# Altium integrated library Componentes Deived Projetos.IntLib: 90 symbols (part 1 of 2)
Pins are listed as number, name and electrical type; pins without a type are passive.

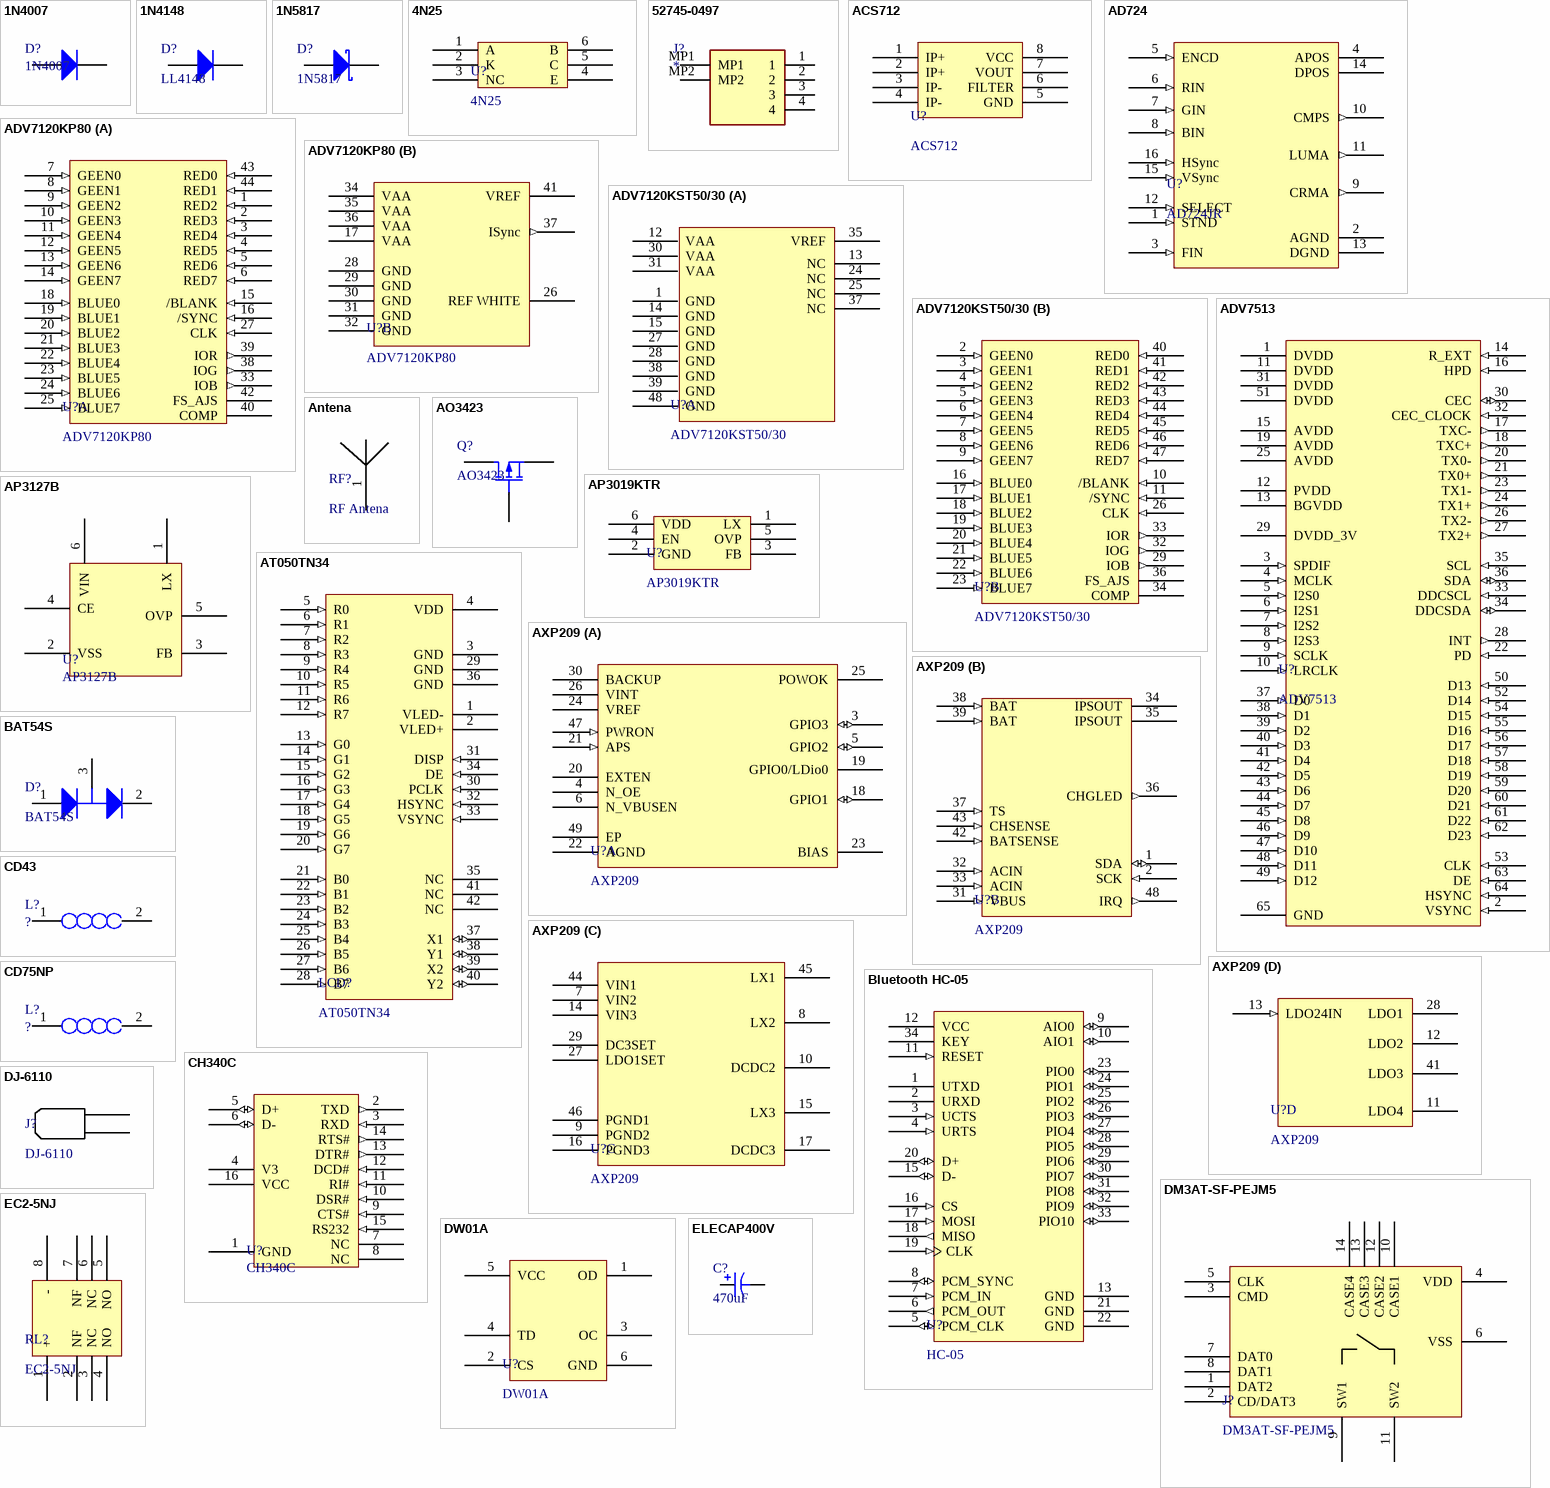
[diagram p0: symbols 1N4007 to ELECAP400V]

## 1N4007
designator D?
1A Rectifier Diodes
footprint DO41
pins: 1 A, 2 K

## 1N4148
designator D?, comment LL4148
Small Signal Fast Switching Diode
footprint MELFDIODE
pins: 1 K, 2 A

## 1N5817
designator D?
Schottky diode Barrier Rectifier
footprint DO-214 (SMA)
pins: A, K

## 4N25
designator U?
Optocoupler, Phototransistor Output, with Base Connection
footprint DIP6
pins: 1 A, 2 K, 3 NC, 4 E, 5 C, 6 B

## 52745-0497
designator J?
Connector; Manufacturer_Name: Molex; Manufacturer_Part_Number: 52745-0497; Description: Molex 52745 0.5mm Pitch 4 Way Straight FPC Connector; Allied_Number: 71469754; Datasheet Link: https://www.molex.com/pdm_docs/sd/527450497_sd.pdf; Height: 2mm; Mouser Part Number: 538-52745-0497; Mouser Price/Stock: https://www.mouser.com/Search/Refine.aspx?Keyword=538-52745-0497; RS Part Number: 7976553P; RS Price/Stock: http://uk.rs-online.com/web/p/products/7976553P; Allied Price/Stock: https://www.alliedelec.com/molexincorporated-52745-0497/71469754/
footprint 527450497
pins: 1, 2, 3, 4, MP1, MP2

## ACS712
designator U?
Sensor de Corrente 30A
footprint PDIP300-8 (DIP, Plastic; 8 Leads; Row Spacing 7.62 mm; Pitch 2.54 mm)
pins: 1 IP+, 2 IP+, 3 IP-, 4 IP-, 5 GND, 6 FILTER, 7 VOUT, 8 VCC

## AD724
designator U?, comment AD724JR
RGB para NTSC-Video
footprint SOIC16 WISE BODY
pins: 1 STND (in), 2 AGND (power), 3 FIN (in), 4 APOS (power), 5 ENCD (in), 6 RIN (in), 7 GIN (in), 8 BIN (in), 9 CRMA (out), 10 CMPS (out), 11 LUMA (out), 12 SELECT (in), 13 DGND (power), 14 DPOS (power), 15 VSync (in), 16 HSync (in)

## ADV7120KP80
designator U?
CMOS  80 MHz, Triple 8-Bit Video DAC
footprint P- 44A
part A pins: 1 RED2 (in), 2 RED3 (in), 3 RED4 (in), 4 RED5 (in), 5 RED6 (in), 6 RED7 (in), 7 GEEN0 (in), 8 GEEN1 (in), 9 GEEN2 (in), 10 GEEN3 (in), 11 GEEN4 (in), 12 GEEN5 (in), 13 GEEN6 (in), 14 GEEN7 (in), 15 /BLANK (in), 16 /SYNC (in), 18 BLUE0 (in), 19 BLUE1 (in), 20 BLUE2 (in), 21 BLUE3 (in), 22 BLUE4 (in), 23 BLUE5 (in), 24 BLUE6 (in), 25 BLUE7 (in), 27 CLK (in), 33 IOB (out), 38 IOG (out), 39 IOR (out), 40 COMP, 42 FS_AJS, 43 RED0 (in), 44 RED1 (in)
part B pins: 17 VAA, 26 REF WHITE, 28 GND, 29 GND, 30 GND, 31 GND, 32 GND, 34 VAA, 35 VAA, 36 VAA, 37 ISync (out), 41 VREF

## ADV7120KST50/30
designator U?
Triple DAC Video Convert
footprint TQFP-48 - L
part A pins: 1 GND, 12 VAA, 13 NC, 14 GND, 15 GND, 24 NC, 25 NC, 27 GND, 28 GND, 30 VAA, 31 VAA, 35 VREF, 37 NC, 38 GND, 39 GND, 48 GND
part B pins: 2 GEEN0 (in), 3 GEEN1 (in), 4 GEEN2 (in), 5 GEEN3 (in), 6 GEEN4 (in), 7 GEEN5 (in), 8 GEEN6 (in), 9 GEEN7 (in), 10 /BLANK (in), 11 /SYNC (in), 16 BLUE0 (in), 17 BLUE1 (in), 18 BLUE2 (in), 19 BLUE3 (in), 20 BLUE4 (in), 21 BLUE5 (in), 22 BLUE6 (in), 23 BLUE7 (in), 26 CLK (in), 29 IOB (out), 32 IOG (out), 33 IOR (out), 34 COMP, 36 FS_AJS, 40 RED0 (in), 41 RED1 (in), 42 RED2 (in), 43 RED3 (in), 44 RED4 (in), 45 RED5 (in), 46 RED6 (in), 47 RED7 (in)

## ADV7513
designator U?
High Perfomance HDMI Trasmitter
footprint LQFP64
pins: 1 DVDD, 2 VSYNC (in), 3 SPDIF (in), 4 MCLK (in), 5 I2S0 (in), 6 I2S1 (in), 7 I2S2 (in), 8 I2S3 (in), 9 SCLK (in), 10 LRCLK (in), 11 DVDD, 12 PVDD, 13 BGVDD, 14 R_EXT (in), 15 AVDD, 16 HPD (in), 17 TXC- (out), 18 TXC+ (out), 19 AVDD, 20 TX0- (out), 21 TX0+ (out), 22 PD (in), 23 TX1- (out), 24 TX1+ (out), 25 AVDD, 26 TX2- (out), 27 TX2+ (out), 28 INT (out), 29 DVDD_3V, 30 CEC (io), 31 DVDD, 32 CEC_CLOCK (in), 33 DDCSCL (in), 34 DDCSDA (io), 35 SCL (in), 36 SDA (io), 37 D0 (in), 38 D1 (in), 39 D2 (in), 40 D3 (in), 41 D4 (in), 42 D5 (in), 43 D6 (in), 44 D7 (in), 45 D8 (in), 46 D9 (in), 47 D10 (in), 48 D11 (in), 49 D12 (in), 50 D13 (in), 51 DVDD, 52 D14 (in), 53 CLK (in), 54 D15 (in), 55 D16 (in), 56 D17 (in), 57 D18 (in), 58 D19 (in), 59 D20 (in), 60 D21 (in), 61 D22 (in), 62 D23 (in), 63 DE (in), 64 HSYNC (in), 65 GND

## Antena
designator RF?, comment RF Antena
Antena RF
pins: 1 "Antena RF"

## AO3423
designator Q?
20V P-Channel MOSFET
footprint SOT23
pins: 1 D, 2 G, 3 S

## AP3019KTR
designator U?
WHITE LED STEP-UP CONVERTER
footprint SOT23-N
pins: 1 LX, 2 GND, 3 FB, 4 EN, 5 OVP, 6 VDD

## AP3127B
designator U?
Step-Up DC/DC Converter Series White LED Backlight Driver
footprint SOT23-N
pins: 1 LX, 2 VSS, 3 FB, 4 CE, 5 OVP, 6 VIN

## AT050TN34
designator LCD?
footprint AT050TN34
pins: 1 VLED- (power), 2 VLED+ (power), 3 GND (power), 4 VDD (power), 5 R0 (in), 6 R1 (in), 7 R2 (in), 8 R3 (in), 9 R4 (in), 10 R5 (in), 11 R6 (in), 12 R7 (in), 13 G0 (in), 14 G1 (in), 15 G2 (in), 16 G3 (in), 17 G4 (in), 18 G5 (in), 19 G6 (in), 20 G7 (in), 21 B0 (in), 22 B1 (in), 23 B2 (in), 24 B3 (in), 25 B4 (in), 26 B5 (in), 27 B6 (in), 28 B7 (in), 29 GND (power), 30 PCLK (in), 31 DISP (in), 32 HSYNC (in), 33 VSYNC (in), 34 DE (in), 35 NC, 36 GND (power), 37 X1 (io), 38 Y1 (io), 39 X2 (io), 40 Y2 (io), 41 NC, 42 NC

## AXP209
designator U?
Enhanced single Cell Li-Battery and Power System Management IC
footprint QFN-49
part A pins: 3 GPIO3 (io), 4 N_OE, 5 GPIO2 (io), 6 N_VBUSEN, 18 GPIO1 (io), 19 GPIO0/LDio0, 20 EXTEN, 21 APS (in), 22 AGND, 23 BIAS, 24 VREF, 25 POWOK, 26 VINT, 30 BACKUP, 47 PWRON (in), 49 EP (power)
part B pins: 1 SDA (io), 2 SCK (in), 31 VBUS (in), 32 ACIN (in), 33 ACIN (in), 34 IPSOUT (power), 35 IPSOUT (power), 36 CHGLED (out), 37 TS (in), 38 BAT (in), 39 BAT (in), 42 BATSENSE (in), 43 CHSENSE (in), 48 IRQ (out)
part C pins: 7 VIN2, 8 LX2, 9 PGND2 (power), 10 DCDC2, 14 VIN3, 15 LX3, 16 PGND3 (power), 17 DCDC3, 27 LDO1SET, 29 DC3SET, 44 VIN1, 45 LX1, 46 PGND1 (power)
part D pins: 11 LDO4 (power), 12 LDO2 (power), 13 LDO24IN (in), 28 LDO1 (power), 41 LDO3 (power)

## BAT54S
designator D?
Schottky diode Barrier Rectifier
footprint SOT23
pins: 1 A, 2 K, 3 K/A

## Bluetooth HC-05
designator U?, comment HC-05
Modulo Bluetooth HC-05
footprint LCC42
pins: 1 UTXD, 2 URXD, 3 UCTS (in), 4 URTS (in), 5 PCM_CLK (io), 6 PCM_OUT (out), 7 PCM_IN (in), 8 PCM_SYNC (io), 9 AIO0 (io), 10 AIO1 (io), 11 RESET (in), 12 VCC (power), 13 GND, 15 D- (io), 16 CS (in), 17 MOSI (in), 18 MISO (out), 19 CLK (in), 20 D+ (io), 21 GND, 22 GND, 23 PIO0 (io), 24 PIO1 (io), 25 PIO2 (io), 26 PIO3 (io), 27 PIO4 (io), 28 PIO5 (io), 29 PIO6 (io), 30 PIO7 (io), 31 PIO8 (io), 32 PIO9 (io), 33 PIO10 (io), 34 KEY

## CD43
designator L?, comment ?
Inductor; Manufacturer_Name: Sumida; Manufacturer_Part_Number: CD43T125NP-4R7MC; Description: Power Inductors 4.7uH +/-20% 2.2A SMD RoHS; Datasheet Link: https://products.sumida.com/products/pdf/CD43T125.pdf; Mouser Part Number: N/A; Mouser Price/Stock: https://www.mouser.com/Search/Refine.aspx?Keyword=N%2FA
footprint CD43NP
pins: 1, 2

## CD75NP
designator L?, comment ?
Inductor; Manufacturer_Name: Sumida; Manufacturer_Part_Number: CD75NP-100KC; Description: Fixed Inductors 10uH 2.3A 10% 2.52MHz SMD PWR IND; Datasheet Link: https://www.arrow.com/en/products/cd75np-100kc/sumida; Mouser Part Number: 851-CD75NP-100KC; Mouser Price/Stock: https://www.mouser.com/Search/Refine.aspx?Keyword=851-CD75NP-100KC
footprint CD75NP
pins: 1, 2

## CH340C
designator U?
footprint NSO16_M (16-Pin Small Outline Integrated Circuit 1.27 mm Pitch, IPC Low Density)
pins: 1 GND, 2 TXD (out), 3 RXD (in), 4 V3, 5 D+ (io), 6 D- (io), 7 NC, 8 NC, 9 CTS# (in), 10 DSR# (in), 11 RI# (in), 12 DCD# (in), 13 DTR# (out), 14 RTS# (out), 15 RS232 (in), 16 VCC

## DJ-6110
designator J?
Terminal Espada Macho DJ-6110 6,3x0,8
footprint DJ-6110
pins: 1, 2

## DM3AT-SF-PEJM5
designator J?
Conector micro SD push/push
footprint SD CARD MICRO
pins: 1 DAT2, 2 CD/DAT3, 3 CMD, 4 VDD, 5 CLK, 6 VSS, 7 DAT0, 8 DAT1, 9 SW1, 10 CASE1, 11 SW2, 12 CASE2, 13 CASE3, 14 CASE4

## DW01A
designator U?
One Cell Lithium-ion/Polymer Battery Protection IC
footprint SOT23-N
pins: 1 OD, 2 CS, 3 OC, 4 TD, 5 VCC, 6 GND

## EC2-5NJ
designator RL?
NEC Relé 5v EC2-5NJ
pins: 1 +, 2 NF, 3 NC, 4 NO, 5 NO, 6 NC, 7 NF, 8 -

## ELECAP400V
designator C?, comment 470uF
Capacitor Eletrolitico 400V
footprint POL_CAP400V
pins: 1, 2

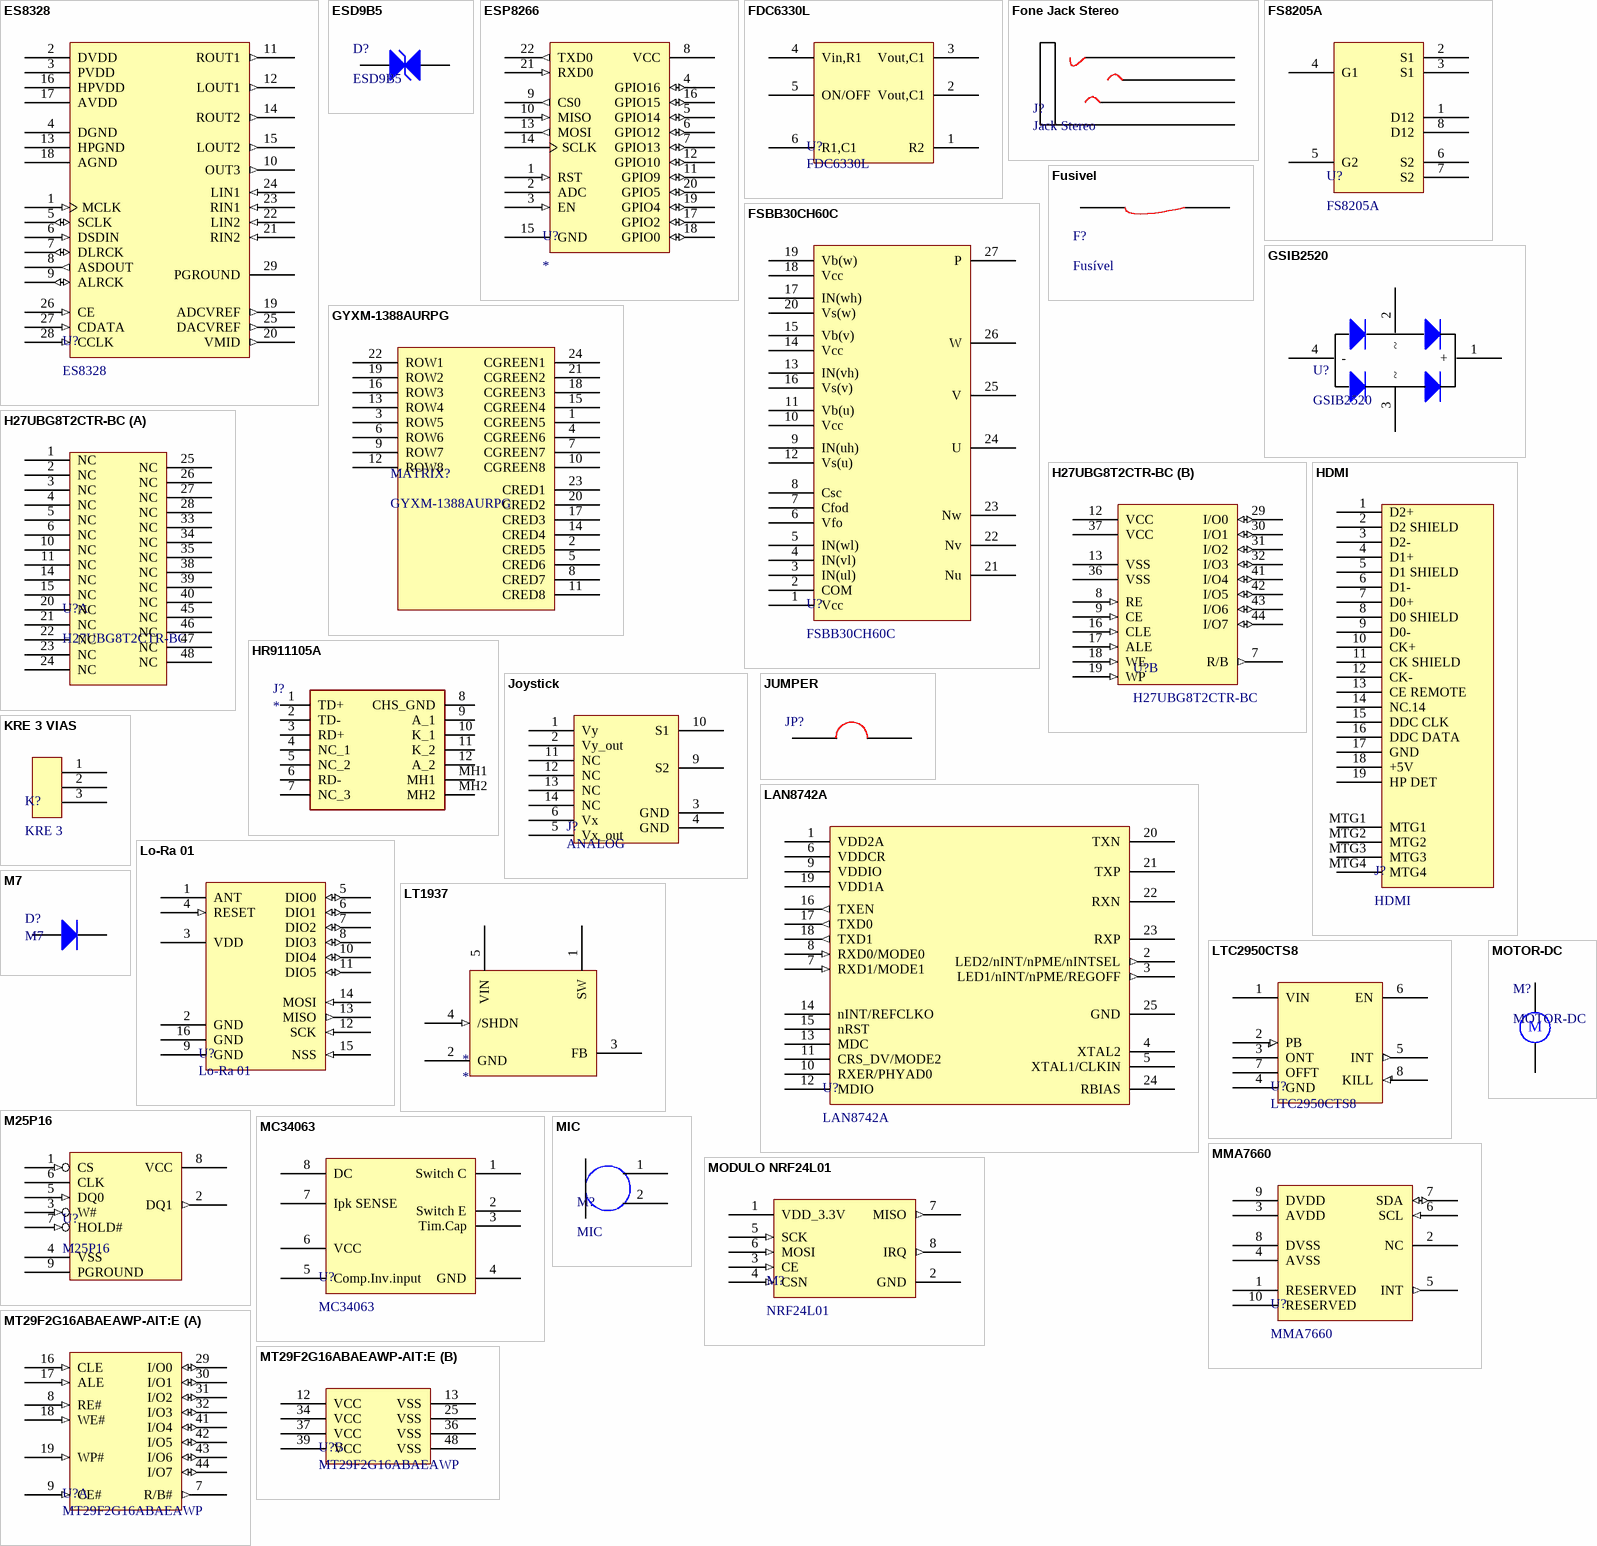
[diagram p1: symbols ES8328 to MT29F2G16ABAEAWP-AIT:E]

## ES8328
designator U?
Low Power Estereo Audio Codec With HeadPhone Amplifier
footprint QFN-28L
pins: 1 MCLK (in), 2 DVDD (power), 3 PVDD (power), 4 DGND, 5 SCLK (io), 6 DSDIN (in), 7 DLRCK (io), 8 ASDOUT (out), 9 ALRCK (io), 10 OUT3 (out), 11 ROUT1 (out), 12 LOUT1 (out), 13 HPGND, 14 ROUT2 (out), 15 LOUT2 (out), 16 HPVDD (power), 17 AVDD, 18 AGND, 19 ADCVREF (out), 20 VMID (out), 21 RIN2 (in), 22 LIN2 (in), 23 RIN1 (in), 24 LIN1 (in), 25 DACVREF (out), 26 CE (in), 27 CDATA (in), 28 CCLK (in), 29 PGROUND

## ESD9B5
designator D?
ESD PROTECTION DIODE
footprint SOD-923
pins: 1, 2

## ESP8266
designator U?
Modulo WIFI ESP8266
footprint LCC28
pins: 1 RST (in), 2 ADC, 3 EN (in), 4 GPIO16 (io), 5 GPIO14 (io), 6 GPIO12 (io), 7 GPIO13 (io), 8 VCC, 9 CS0 (out), 10 MISO (in), 11 GPIO9 (io), 12 GPIO10 (io), 13 MOSI (out), 14 SCLK, 15 GND, 16 GPIO15 (io), 17 GPIO2 (io), 18 GPIO0 (io), 19 GPIO4 (io), 20 GPIO5 (io), 21 RXD0 (in), 22 TXD0 (out)

## FDC6330L
designator U?
This device is particularly suited for compact power / management in portable electronic equipment where 3V / to 20V input and 2.3A output current capability are needed.
footprint SOT23-N
pins: 1 R2, 2 Vout,C1, 3 Vout,C1, 4 Vin,R1, 5 ON/OFF, 6 R1,C1

## Fone Jack Stereo
designator J?, comment Jack Stereo
footprint PJ320A
pins: 2, 3, 4, 5 (power)

## FS8205A
designator U?
Dual N-Channel Enhancement Mode Power MOSFET
footprint TSSOP8 (Shrink Small Outline, Plastic, Thin; 8 Leads; Body Width 4.4 mm; Pitch 0.65 mm)
pins: 1 D12, 2 S1, 3 S1, 4 G1, 5 G2, 6 S2, 7 S2, 8 D12

## FSBB30CH60C
designator U?
Smart Power Module
footprint NADA_VER
pins: 1 Vcc, 2 COM, 3 IN(ul), 4 IN(vl), 5 IN(wl), 6 Vfo, 7 Cfod, 8 Csc, 9 IN(uh), 10 Vcc, 11 Vb(u), 12 Vs(u), 13 IN(vh), 14 Vcc, 15 Vb(v), 16 Vs(v), 17 IN(wh), 18 Vcc, 19 Vb(w), 20 Vs(w), 21 Nu, 22 Nv, 23 Nw, 24 U, 25 V, 26 W, 27 P

## Fusivel
designator F?, comment Fusível
Porta Fusível 250V 5x20
footprint AS-06
pins: 1, 2

## GSIB2520
designator U?
Single-Phase Single In-Line Bridge Rectifiers
footprint Single-Phase Single In-Line Bridge Rectifiers
pins: 1 +, 2 ~, 3 ~, 4 -

## GYXM-1388AURPG
designator MATRIX?
Dot Matrix Display
footprint DIP24
pins: 1 CGREEN5, 2 CRED5, 3 ROW5, 4 CGREEN6, 5 CRED6, 6 ROW6, 7 CGREEN7, 8 CRED7, 9 ROW7, 10 CGREEN8, 11 CRED8, 12 ROW8, 13 ROW4, 14 CRED4, 15 CGREEN4, 16 ROW3, 17 CRED3, 18 CGREEN3, 19 ROW2, 20 CRED2, 21 CGREEN2, 22 ROW1, 23 CRED1, 24 CGREEN1

## H27UBG8T2CTR-BC
designator U?
32Gb(4096M x 8bit) Nand Flash
footprint TSOP-48
part A pins: 1 NC, 2 NC, 3 NC, 4 NC, 5 NC, 6 NC, 10 NC, 11 NC, 14 NC, 15 NC, 20 NC, 21 NC, 22 NC, 23 NC, 24 NC, 25 NC, 26 NC, 27 NC, 28 NC, 33 NC, 34 NC, 35 NC, 38 NC, 39 NC, 40 NC, 45 NC, 46 NC, 47 NC, 48 NC
part B pins: 7 R/B (out), 8 RE (in), 9 CE (in), 12 VCC, 13 VSS, 16 CLE (in), 17 ALE (in), 18 WE (in), 19 WP (in), 29 I/O0 (io), 30 I/O1 (io), 31 I/O2 (io), 32 I/O3 (io), 36 VSS, 37 VCC, 41 I/O4 (io), 42 I/O5 (io), 43 I/O6 (io), 44 I/O7 (io)

## HDMI
designator J?
CONECTOR HDMI
footprint HDMI
pins: 1 D2+, 2 D2 SHIELD, 3 D2-, 4 D1+, 5 D1 SHIELD, 6 D1-, 7 D0+, 8 D0 SHIELD, 9 D0-, 10 CK+, 11 CK SHIELD, 12 CK-, 13 CE REMOTE, 14 NC.14, 15 DDC CLK, 16 DDC DATA, 17 GND, 18 +5V, 19 HP DET, MTG1, MTG2, MTG3, MTG4

## HR911105A
designator J?
Connector; Manufacturer_Name: HANRUN(Zhongshan HanRun Elec); Manufacturer_Part_Number: HR911105A; Description: Through Hole Ethernet Connectors/Modular Connectors (RJ45 RJ11); Datasheet Link: https://datasheet.lcsc.com/szlcsc/Zhongshan-HanRun-Elec-HR911105A_C12074.pdf; Height: 13.75mm
footprint HR911105A
pins: 1 TD+, 2 TD-, 3 RD+, 4 NC_1, 5 NC_2, 6 RD-, 7 NC_3, 8 CHS_GND, 9 A_1, 10 K_1, 11 K_2, 12 A_2, MH1, MH2

## Joystick
designator J?, comment ANALOG
footprint Joystick
pins: 1 Vy, 2 Vy_out, 3 GND, 4 GND, 5 Vx_out, 6 Vx, 9 S2, 10 S1, 11 NC, 12 NC, 13 NC, 14 NC

## JUMPER
designator JP?  (value not drawn)
footprint 0603
pins: 1 A, 2 B

## KRE 3 VIAS
designator K?, comment KRE 3
BORNE KRE 3 VIAS
footprint KRE 3 VIAS
pins: 1, 2, 3

## LAN8742A
designator U?
footprint Quad24
footprint QFN50P400X400X100-25N-D
pins: 1 VDD2A, 2 LED2/nINT/nPME/nINTSEL (out), 3 LED1/nINT/nPME/REGOFF (out), 4 XTAL2, 5 XTAL1/CLKIN, 6 VDDCR, 7 RXD1/MODE1 (in), 8 RXD0/MODE0 (in), 9 VDDIO, 10 RXER/PHYAD0, 11 CRS_DV/MODE2, 12 MDIO, 13 MDC, 14 nINT/REFCLKO, 15 nRST, 16 TXEN (out), 17 TXD0 (out), 18 TXD1 (out), 19 VDD1A, 20 TXN, 21 TXP, 22 RXN, 23 RXP, 24 RBIAS, 25 GND

## Lo-Ra 01
designator U?
footprint Lo-Ra 01
pins: 1 ANT, 2 GND, 3 VDD, 4 RESET (in), 5 DIO0 (io), 6 DIO1 (io), 7 DIO2 (io), 8 DIO3 (io), 9 GND, 10 DIO4 (io), 11 DIO5 (io), 12 SCK (in), 13 MISO (out), 14 MOSI (in), 15 NSS (in), 16 GND

## LT1937
designator *
footprint SOT23-5 (SOT-23/SC-74A; 5 Leads; Body 3 x 3 mm, inc. leads (LxW max))
pins: 1 SW, 2 GND, 3 FB, 4 /SHDN (in), 5 VIN

## LTC2950CTS8
designator U?
footprint SOT23-8
pins: 1 VIN, 2 PB (in), 3 ONT, 4 GND, 5 INT (out), 6 EN, 7 OFFT, 8 KILL (in)

## M7
designator D?
1A Rectifier Diodes
footprint DO-214AC(SMA)
pins: A, K

## M25P16
designator U?
16 Mbit, serial Flash memory, 75 MHz SPI bus interface
footprint VDFPN-8
pins: 1 CS (in), 2 DQ1 (out), 3 W# (in), 4 VSS, 5 DQ0 (in), 6 CLK (power), 7 HOLD# (in), 8 VCC, 9 PGROUND

## MC34063
designator U?
Step Up/Down Inverting Switching 1.5A Regulators
footprint SOIC - 8
pins: 1 Switch C, 2 Switch E, 3 Tim.Cap, 4 GND, 5 Comp.Inv.input, 6 VCC, 7 Ipk SENSE, 8 DC

## MIC
designator M?
Microfone Eletreto
footprint MIC
pins: 1, 2

## MMA7660
designator U?
3-Axis Orientation/Motion Detection Sensor
footprint DFN-10L
pins: 1 RESERVED, 2 NC, 3 AVDD, 4 AVSS, 5 INT (out), 6 SCL (in), 7 SDA (io), 8 DVSS, 9 DVDD (power), 10 RESERVED

## MODULO NRF24L01
designator M?, comment NRF24L01
footprint NRF24L01_1.27mm
footprint NRF24 27mmX12mm
pins: 1 VDD_3.3V, 2 GND (power), 3 CE (in), 4 CSN (in), 5 SCK (in), 6 MOSI (in), 7 MISO (out), 8 IRQ (out)

## MOTOR-DC
designator M?
MOTOR DC 3.3V
footprint MOTOR
pins: 1, 2
text: M

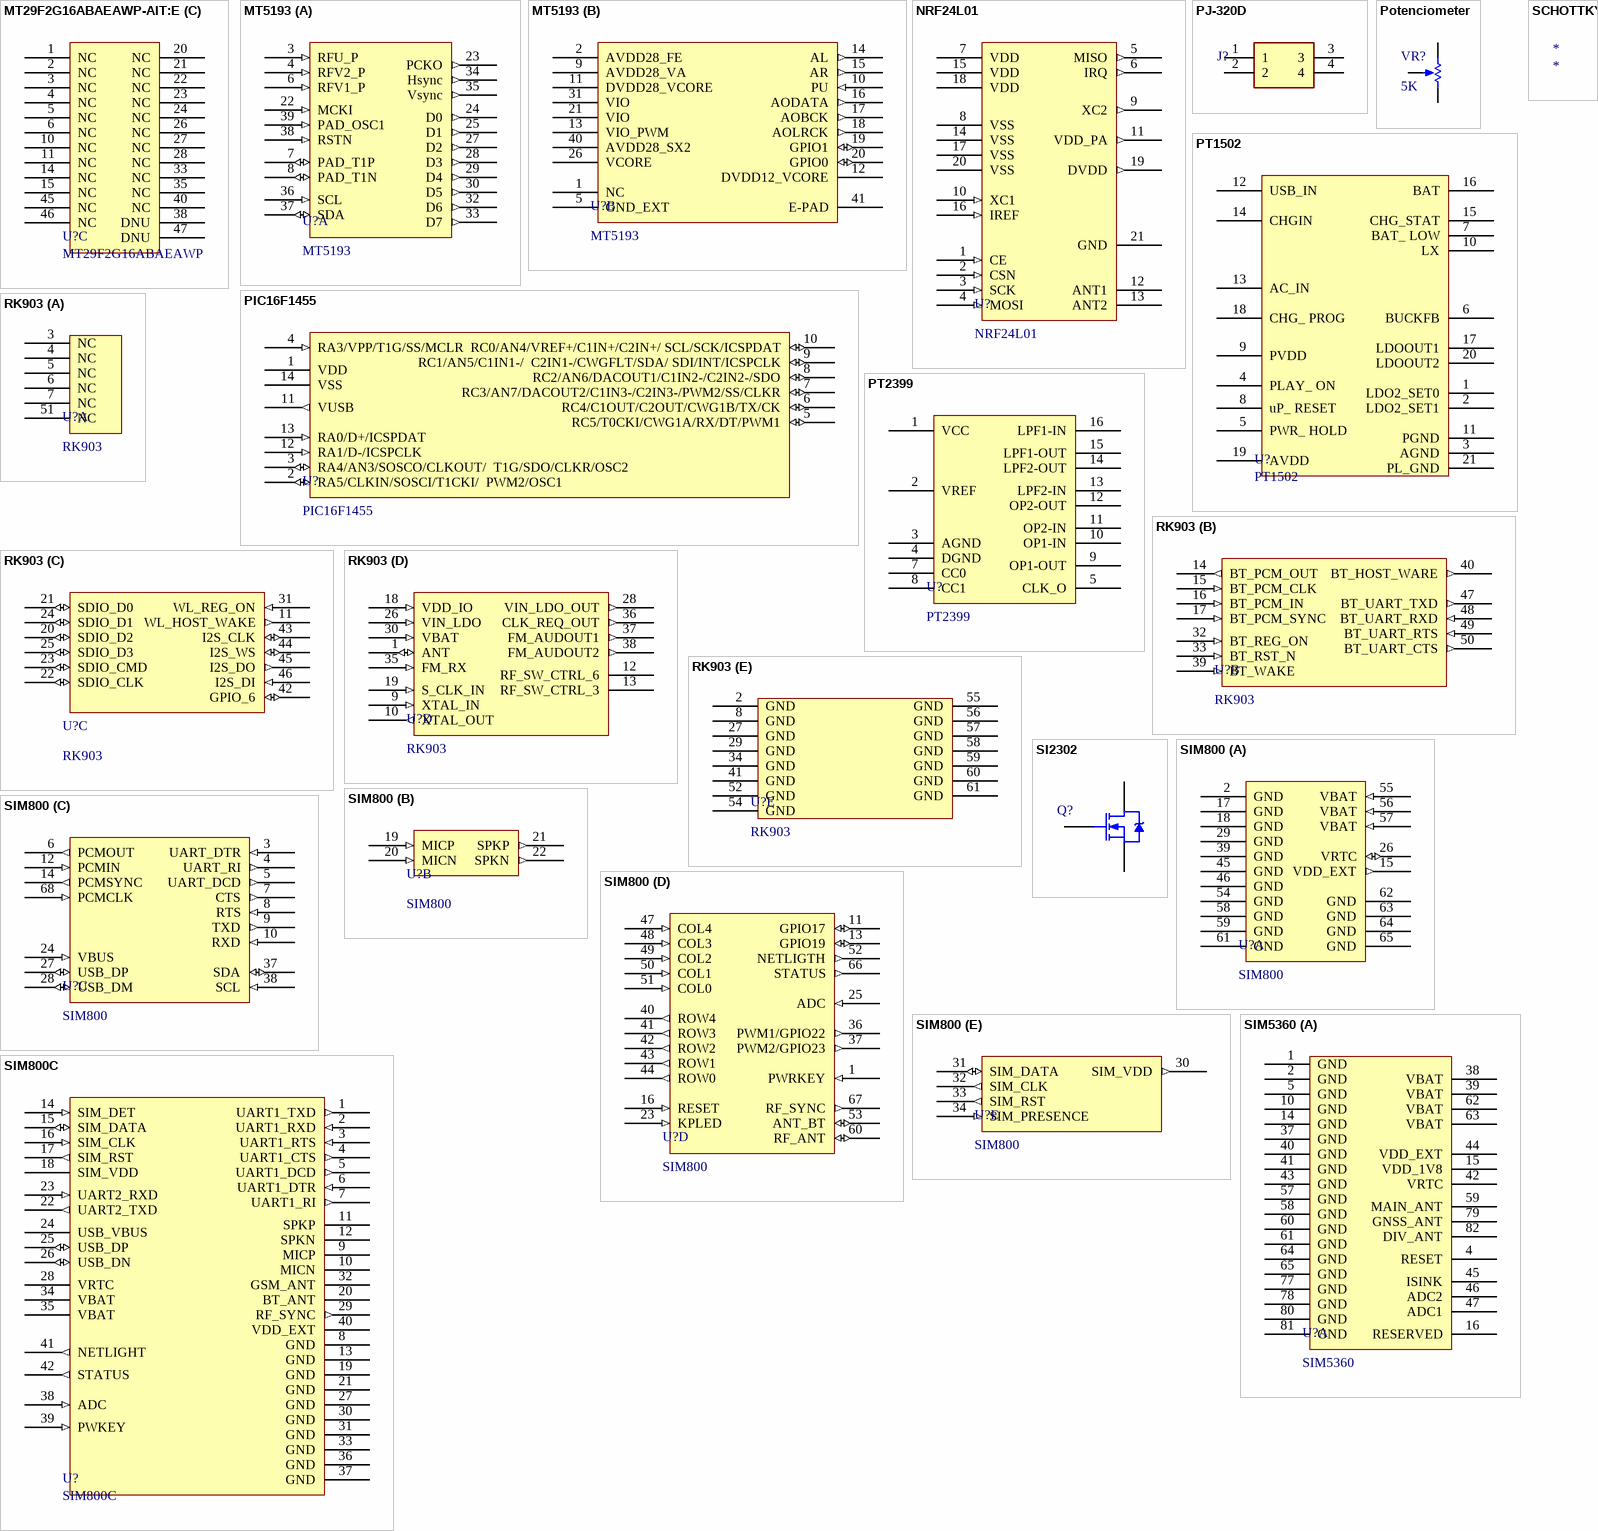
[diagram p2: symbols MT29F2G16ABAEAWP-AIT:E to SIM5360]

## MT29F2G16ABAEAWP-AIT:E
designator U?, comment MT29F2G16ABAEAWP
footprint TSOP-48
part A pins: 7 R/B# (out), 8 RE# (in), 9 CE# (in), 16 CLE (in), 17 ALE (in), 18 WE# (in), 19 WP# (in), 29 I/O0 (io), 30 I/O1 (io), 31 I/O2 (io), 32 I/O3 (io), 41 I/O4 (io), 42 I/O5 (io), 43 I/O6 (io), 44 I/O7 (io)
part B pins: 12 VCC (power), 13 VSS (power), 25 VSS (power), 34 VCC (power), 36 VSS (power), 37 VCC (power), 39 VCC (power), 48 VSS (power)
part C pins: 1 NC, 2 NC, 3 NC, 4 NC, 5 NC, 6 NC, 10 NC, 11 NC, 14 NC, 15 NC, 20 NC, 21 NC, 22 NC, 23 NC, 24 NC, 26 NC, 27 NC, 28 NC, 33 NC, 35 NC, 38 DNU, 40 NC, 45 NC, 46 NC, 47 DNU

## MT5193
designator U?
Mobile Analogic TV Receiver SOC
footprint QFN5x5 40PIN
part A pins: 3 RFU_P (in), 4 RFV2_P (in), 6 RFV1_P (in), 7 PAD_T1P (io), 8 PAD_T1N (io), 22 MCKI (in), 23 PCKO (out), 24 D0 (out), 25 D1 (out), 27 D2 (out), 28 D3 (out), 29 D4 (out), 30 D5 (out), 32 D6 (out), 33 D7 (out), 34 Hsync (out), 35 Vsync (out), 36 SCL (in), 37 SDA (io), 38 RSTN (in), 39 PAD_OSC1 (in)
part B pins: 1 NC, 2 AVDD28_FE, 5 GND_EXT (power), 9 AVDD28_VA, 10 PU (in), 11 DVDD28_VCORE, 12 DVDD12_VCORE (power), 13 VIO_PWM, 14 AL (out), 15 AR (out), 16 AODATA (out), 17 AOBCK (out), 18 AOLRCK (out), 19 GPIO1 (io), 20 GPIO0 (io), 21 VIO (power), 26 VCORE (power), 31 VIO (power), 40 AVDD28_SX2 (power), 41 E-PAD (power)

## NRF24L01
designator U?
Wireless Transmiter 2.4GHz
footprint QFN20 4x4
pins: 1 CE (in), 2 CSN (in), 3 SCK (in), 4 MOSI (in), 5 MISO (out), 6 IRQ (out), 7 VDD, 8 VSS, 9 XC2 (out), 10 XC1 (in), 11 VDD_PA (out), 12 ANT1, 13 ANT2, 14 VSS, 15 VDD, 16 IREF (in), 17 VSS, 18 VDD, 19 DVDD (out), 20 VSS, 21 GND (power)

## PIC16F1455
designator U?
8-Bit Flash USB Microcontroller with  XLP Technology
footprint SOIC14
pins: 1 VDD (power), 2 RA5/CLKIN/SOSCI/T1CKI/  PWM2/OSC1 (io), 3 RA4/AN3/SOSCO/CLKOUT/  T1G/SDO/CLKR/OSC2 (io), 4 RA3/VPP/T1G/SS/MCLR (in), 5 RC5/T0CKI/CWG1A/RX/DT/PWM1 (io), 6 RC4/C1OUT/C2OUT/CWG1B/TX/CK (io), 7 RC3/AN7/DACOUT2/C1IN3-/C2IN3-/PWM2/SS/CLKR (io), 8 RC2/AN6/DACOUT1/C1IN2-/C2IN2-/SDO (io), 9 RC1/AN5/C1IN1-/  C2IN1-/CWGFLT/SDA/ SDI/INT/ICSPCLK (io), 10 RC0/AN4/VREF+/C1IN+/C2IN+/ SCL/SCK/ICSPDAT (io), 11 VUSB (out), 12 RA1/D-/ICSPCLK (in), 13 RA0/D+/ICSPDAT (in), 14 VSS (power)

## PJ-320D
designator J?  (value not drawn)
footprint PJ-320D
pins: 1, 2, 3, 4

## Potenciometer
designator VR?, comment 5K
footprint RV
pins: 1 TOP, 2 TAP, 3 BOT

## PT1502
designator U?
footprint QFN50P400X400-20V1L (QFN, 20-Leads, Body 4x4mm, Pitch 0.5mm, IPC High Density)
pins: 1 LDO2_SET0, 2 LDO2_SET1, 3 AGND, 4 PLAY_ ON, 5 PWR_ HOLD, 6 BUCKFB, 7 BAT_ LOW, 8 uP_ RESET, 9 PVDD, 10 LX, 11 PGND, 12 USB_IN, 13 AC_IN, 14 CHGIN, 15 CHG_STAT, 16 BAT, 17 LDOOUT1, 18 CHG_ PROG, 19 AVDD, 20 LDOOUT2, 21 PL_GND

## PT2399
designator U?
The PT2399 is a single chip echo processor IC utilizing / CMOS technology
footprint DIP-16 (DIP, 16-Pin, Row Spacing 7.62 mm, Pitch 2.54 mm)
pins: 1 VCC, 2 VREF, 3 AGND, 4 DGND, 5 CLK_O, 7 CC0, 8 CC1, 9 OP1-OUT, 10 OP1-IN, 11 OP2-IN, 12 OP2-OUT, 13 LPF2-IN, 14 LPF2-OUT, 15 LPF1-OUT, 16 LPF1-IN

## RK903
designator U?
Module Wifi/Bt/FM
part A pins: 3 NC, 4 NC, 5 NC, 6 NC, 7 NC, 51 NC
part B pins: 14 BT_PCM_OUT (out), 15 BT_PCM_CLK (in), 16 BT_PCM_IN (in), 17 BT_PCM_SYNC (in), 32 BT_REG_ON (in), 33 BT_RST_N (in), 39 BT_WAKE (in), 40 BT_HOST_WARE (out), 47 BT_UART_TXD (out), 48 BT_UART_RXD (in), 49 BT_UART_RTS (in), 50 BT_UART_CTS (out)
part C pins: 11 WL_HOST_WAKE (out), 20 SDIO_D2 (io), 21 SDIO_D0 (io), 22 SDIO_CLK (io), 23 SDIO_CMD (io), 24 SDIO_D1 (io), 25 SDIO_D3 (io), 31 WL_REG_ON (in), 42 GPIO_6 (io), 43 I2S_CLK (io), 44 I2S_WS (io), 45 I2S_DO (out), 46 I2S_DI (in)
part D pins: 1 ANT (io), 9 XTAL_IN (in), 10 XTAL_OUT (out), 12 RF_SW_CTRL_6, 13 RF_SW_CTRL_3, 18 VDD_IO (in), 19 S_CLK_IN (in), 26 VIN_LDO (in), 28 VIN_LDO_OUT (out), 30 VBAT (in), 35 FM_RX (in), 36 CLK_REQ_OUT (out), 37 FM_AUDOUT1 (out), 38 FM_AUDOUT2 (out)
part E pins: 2 GND, 8 GND, 27 GND, 29 GND, 34 GND, 41 GND, 52 GND, 54 GND, 55 GND, 56 GND, 57 GND, 58 GND, 59 GND, 60 GND, 61 GND

## SCHOTTKY
designator *

## SI2302
designator Q?  (value not drawn)
footprint SOT23
pins: 1 G, 2 D, 3 S

## SIM800
designator U?
Modulo GSM GPRS
part A pins: 2 GND, 15 VDD_EXT (out), 17 GND, 18 GND, 26 VRTC (io), 29 GND, 39 GND, 45 GND, 46 GND, 54 GND, 55 VBAT (in), 56 VBAT (in), 57 VBAT (in), 58 GND, 59 GND, 61 GND, 62 GND, 63 GND, 64 GND, 65 GND
part B pins: 19 MICP (in), 20 MICN (in), 21 SPKP (out), 22 SPKN (out)
part C pins: 3 UART_DTR (in), 4 UART_RI (out), 5 UART_DCD (out), 6 PCMOUT (out), 7 CTS (out), 8 RTS (in), 9 TXD (out), 10 RXD (in), 12 PCMIN (in), 14 PCMSYNC (out), 24 VBUS (in), 27 USB_DP (io), 28 USB_DM (io), 37 SDA (io), 38 SCL (in), 68 PCMCLK (in)
part D pins: 1 PWRKEY (in), 11 GPIO17 (io), 13 GPIO19 (io), 16 RESET (in), 23 KPLED (in), 25 ADC (in), 36 PWM1/GPIO22 (out), 37 PWM2/GPIO23 (out), 40 ROW4 (out), 41 ROW3 (out), 42 ROW2 (out), 43 ROW1 (out), 44 ROW0 (out), 47 COL4 (in), 48 COL3 (in), 49 COL2 (in), 50 COL1 (in), 51 COL0 (in), 52 NETLIGTH (out), 53 ANT_BT (io), 60 RF_ANT (io), 66 STATUS (out), 67 RF_SYNC (out)
part E pins: 30 SIM_VDD (out), 31 SIM_DATA (io), 32 SIM_CLK (out), 33 SIM_RST (out), 34 SIM_PRESENCE (in)

## SIM800C
designator U?
pins: 1 UART1_TXD (out), 2 UART1_RXD (in), 3 UART1_RTS (in), 4 UART1_CTS (out), 5 UART1_DCD (out), 6 UART1_DTR (in), 7 UART1_RI (out), 8 GND (power), 9 MICP, 10 MICN, 11 SPKP, 12 SPKN, 13 GND (power), 14 SIM_DET (in), 15 SIM_DATA (io), 16 SIM_CLK (in), 17 SIM_RST (out), 18 SIM_VDD (power), 19 GND (power), 20 BT_ANT, 21 GND (power), 22 UART2_TXD (out), 23 UART2_RXD (in), 24 USB_VBUS, 25 USB_DP (io), 26 USB_DN (io), 27 GND (power), 28 VRTC, 29 RF_SYNC (out), 30 GND (power), 31 GND (power), 32 GSM_ANT, 33 GND (power), 34 VBAT (power), 35 VBAT (power), 36 GND (power), 37 GND (power), 38 ADC (in), 39 PWKEY (in), 40 VDD_EXT (power), 41 NETLIGHT (out), 42 STATUS (out)

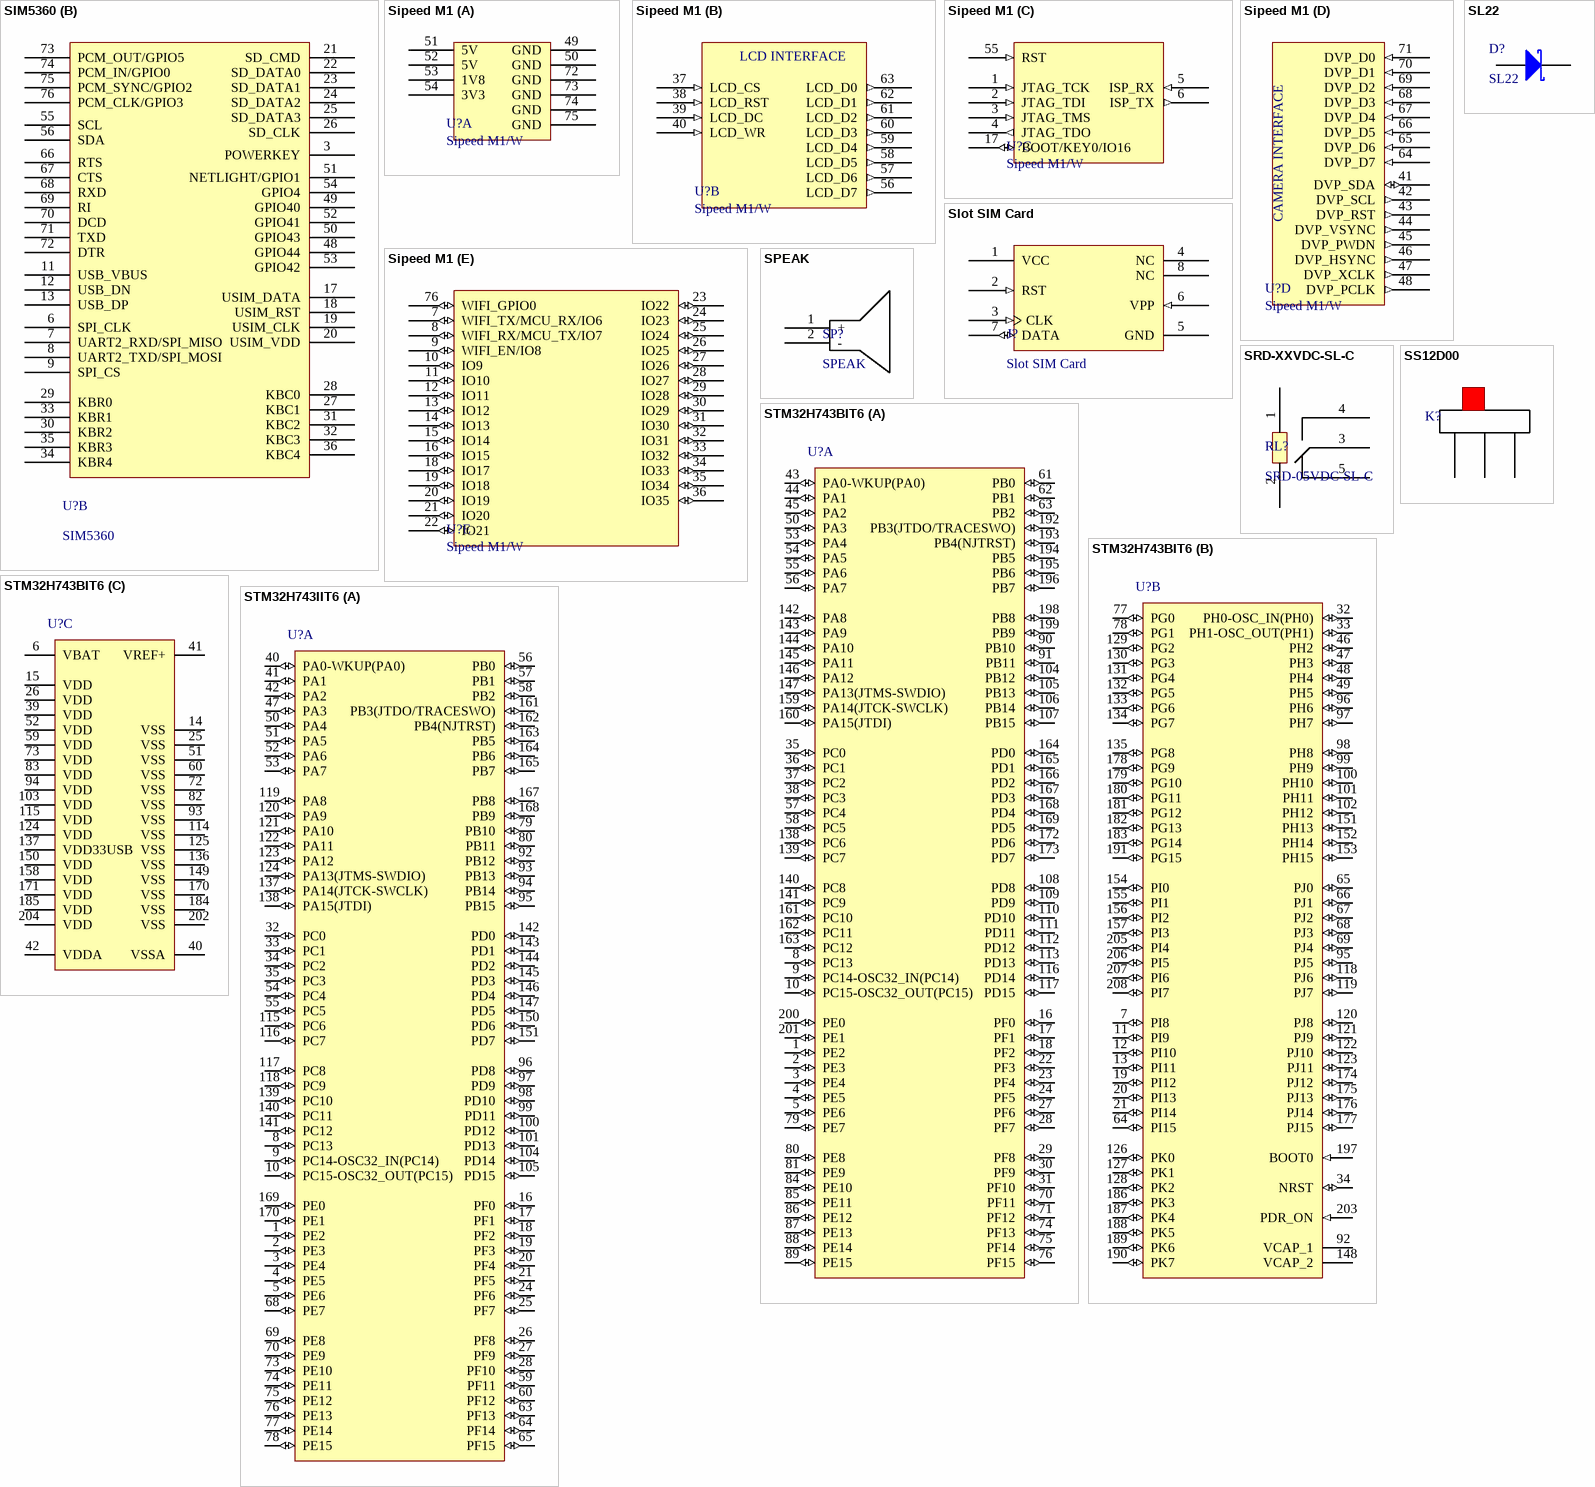
[diagram p3: symbols SIM5360 to STM32H743IIT6]

## SIM5360
designator U?
quad-band GSM/GPRS/EDGE and dual-band UMTS /HSPA+
footprint LCC82
part A pins: 1 GND, 2 GND, 4 RESET, 5 GND, 10 GND, 14 GND, 15 VDD_1V8, 16 RESERVED, 37 GND, 38 VBAT, 39 VBAT, 40 GND, 41 GND, 42 VRTC, 43 GND, 44 VDD_EXT, 45 ISINK, 46 ADC2, 47 ADC1, 57 GND, 58 GND, 59 MAIN_ANT, 60 GND, 61 GND, 62 VBAT, 63 VBAT, 64 GND, 65 GND, 77 GND, 78 GND, 79 GNSS_ANT, 80 GND, 81 GND, 82 DIV_ANT
part B pins: 3 POWERKEY, 6 SPI_CLK, 7 UART2_RXD/SPI_MISO , 8 UART2_TXD/SPI_MOSI , 9 SPI_CS, 11 USB_VBUS, 12 USB_DN, 13 USB_DP, 17 USIM_DATA, 18 USIM_RST, 19 USIM_CLK, 20 USIM_VDD, 21 SD_CMD, 22 SD_DATA0, 23 SD_DATA1, 24 SD_DATA2, 25 SD_DATA3, 26 SD_CLK, 27 KBC1, 28 KBC0, 29 KBR0, 30 KBR2, 31 KBC2, 32 KBC3, 33 KBR1, 34 KBR4, 35 KBR3, 36 KBC4, 48 GPIO44, 49 GPIO40, 50 GPIO43, 51 NETLIGHT/GPIO1, 52 GPIO41, 53 GPIO42, 54 GPIO4, 55 SCL, 56 SDA, 66 RTS, 67 CTS, 68 RXD, 69 RI, 70 DCD, 71 TXD, 72 DTR, 73 PCM_OUT/GPIO5 , 74 PCM_IN/GPIO0, 75 PCM_SYNC/GPIO2, 76 PCM_CLK/GPIO3

## Sipeed M1
designator U?, comment Sipeed M1/W
sing Kendryte's AI chip K210 as the core unit, K210 is fully pin-out, with strong performance, small size (25.4*25.4mm), low price (<$8), improve hardware design efficiency, reduce hardware design difficulty, and increase the anti-interference ability with shielded case
footprint sipeed72
part A pins: 49 GND, 50 GND, 51 5V, 52 5V, 53 1V8, 54 3V3, 72 GND, 73 GND, 74 GND, 75 GND
part B pins: 37 LCD_CS (in), 38 LCD_RST (in), 39 LCD_DC (in), 40 LCD_WR (in), 56 LCD_D7 (out), 57 LCD_D6 (out), 58 LCD_D5 (out), 59 LCD_D4 (out), 60 LCD_D3 (out), 61 LCD_D2 (out), 62 LCD_D1 (out), 63 LCD_D0 (out)
part C pins: 1 JTAG_TCK (in), 2 JTAG_TDI (in), 3 JTAG_TMS (in), 4 JTAG_TDO (out), 5 ISP_RX (in), 6 ISP_TX (out), 17 BOOT/KEY0/IO16 (io), 55 RST (in)
part D pins: 41 DVP_SDA (io), 42 DVP_SCL (out), 43 DVP_RST (out), 44 DVP_VSYNC (out), 45 DVP_PWDN (out), 46 DVP_HSYNC (out), 47 DVP_XCLK (out), 48 DVP_PCLK (out), 64 DVP_D7 (in), 65 DVP_D6 (in), 66 DVP_D5 (in), 67 DVP_D4 (in), 68 DVP_D3 (in), 69 DVP_D2 (in), 70 DVP_D1 (in), 71 DVP_D0 (in)
part E pins: 7 WIFI_TX/MCU_RX/IO6 (io), 8 WIFI_RX/MCU_TX/IO7 (io), 9 WIFI_EN/IO8 (io), 10 IO9 (io), 11 IO10 (io), 12 IO11 (io), 13 IO12 (io), 14 IO13 (io), 15 IO14 (io), 16 IO15 (io), 18 IO17 (io), 19 IO18 (io), 20 IO19 (io), 21 IO20 (io), 22 IO21 (io), 23 IO22 (io), 24 IO23 (io), 25 IO24 (io), 26 IO25 (io), 27 IO26 (io), 28 IO27 (io), 29 IO28 (io), 30 IO29 (io), 31 IO30 (io), 32 IO31 (io), 33 IO32 (io), 34 IO33 (io), 35 IO34 (io), 36 IO35 (io), 76 WIFI_GPIO0 (io)
part B text: LCD INTERFACE
part D text: CAMERA INTERFACE

## SL22
designator D?
Surface Mount Schottky Barrier Rectifier
footprint DO-214AC
pins: 1 A, 2 K

## Slot SIM Card
designator J?
Slor SIM CARD GSM/GPRS
pins: 1 VCC, 2 RST (in), 3 CLK (in), 4 NC, 5 GND, 6 VPP (in), 7 DATA (io), 8 NC

## SPEAK
designator SP?
Audio out Speak 8R
footprint SPEAKER
pins: 1 +, 2 -

## SRD-XXVDC-SL-C
designator RL?, comment SRD-05VDC-SL-C
RELÉ
footprint SRD-XXVDC-SL-C
pins: 1 A1, 2 A2, 3 NC, 4 NC, 5 NF

## SS12D00
designator K?  (value not drawn)
footprint 2PDT
pins: 1 O1, 2 IN, 3 O2

## STM32H743BIT6
designator U?
High-performance and DSP with DP-FPU, Arm Cortex-M7 MCU with 2MBytes of Flash memory, 1MB RAM, 480 MHz CPU, L1 cache, external memory interface, JPEG codec, large set of peripherals; Manufacturer: STMicroelectronics; PartNumber: STM32F429BIT6; Core: ARM Cortex-M4; D/A Converter: 2x12-bit; FLASH Size (Prog) (kB): 2048; I/Os (High Current): 168; Internal RAM Size (kB): 256; Operating Frequency(F) (Processor speed) (MHz): 180; Packing: Tray; Supply Voltage(Vcc) max (V): 3.6; Supply Voltage(Vcc) min (V): 1.8; DatasheetVersion: Rev. 2; PackageVersion: Rev. 2, 05/2013; PackageReference: LQFP208; PackageDescription: 208-Pin Low Profile Quad Flat Package, 28 x 28 mm Body, 0.5 mm Pitch; Supplier 1: Mouser; Supplier Part Number 1: N/A; Mounting Technology: Surface Mount; ComponentLink1Description: Manufacturer URL; ComponentLink1URL: http://www.st.com/web/en/home.html; ComponentLink2Description: Datasheet; ComponentLink2URL: http://www.st.com/st-web-ui/static/active/en/resource/technical/document/data_brief/DM00053488.pdf; ComponentLink3Description: Package Specification; ComponentLink3URL: http://www.st.com/st-web-ui/static/active/en/resource/technical/document/data_brief/DM00053488.pdf
footprint STM-LQFP208_N (QFP, 208-Leads, Body 28x28mm, Pitch 0.5mm, IPC Medium Density)
footprint STM-LQFP208_L (QFP, 208-Leads, Body 28x28mm, Pitch 0.5mm, IPC High Density)
footprint STM-LQFP208_M (QFP, 208-Leads, Body 28x28mm, Pitch 0.5mm, IPC Low Density)
part A pins: 1 PE2 (io) "PE2/TRACECLK,SPI4_SCK,SAI1_MCLK_A,ETH_MII_TXD3,FMC_A23,EVENTOUT", 2 PE3 (io) "PE3/TRACED0,SAI1_SD_B,FMC_A19,EVENTOUT", 3 PE4 (io) "PE4/TRACED1,SPI4_NSS,SAI1_FS_A,FMC_A20,DCMI_D4,LCD_B0,EVENTOUT", 4 PE5 (io) "PE5/TRACED2,TIM9_CH1,SPI4_MISO,SAI1_SCK_A,FMC_A21,DCMI_D6,LCD_G0,EVENTOUT", 5 PE6 (io) "PE6/TRACED3,TIM9_CH2,SPI4_MOSI,SAI1_SD_A,FMC_A22,DCMI_D7,LCD_G1,EVENTOUT", 8 PC13 (io) "PC13/EVENTOUT/TAMP_1", 9 PC14-OSC32_IN(PC14) (io) "PC14-OSC32_IN(PC14)/EVENTOUT/OSC32_IN", 10 PC15-OSC32_OUT(PC15) (io) "PC15-OSC32_OUT(PC15)/EVENTOUT/OSC32_OUT", 16 PF0 (io) "PF0/I2C2_SDA,FMC_A0,EVENTOUT", 17 PF1 (io) "PF1/I2C2_SCL,FMC_A1,EVENTOUT", 18 PF2 (io) "PF2/I2C2_SMBA,FMC_A2,EVENTOUT", 22 PF3 (io) "PF3/FMC_A3,EVENTOUT/ADC3_IN9", 23 PF4 (io) "PF4/FMC_A4,EVENTOUT/ADC3_IN14", 24 PF5 (io) "PF5/FMC_A5,EVENTOUT/ADC3_IN15", 27 PF6 (io) "PF6/TIM10_CH1,SPI5_NSS,SAI1_SD_B,UART7_RX,FMC_NIORD,EVENTOUT/ADC3_IN4", 28 PF7 (io) "PF7/TIM11_CH1,SPI5_SCK,SAI1_MCLK_B,UART7_TX,FMC_NREG,EVENTOUT/ADC3_IN5", 29 PF8 (io) "PF8/SPI5_MISO,SAI1_SCK_B,TIM13_CH1,FMC_NIOWR,EVENTOUT/ADC3_IN6", 30 PF9 (io) "PF9/SPI5_MOSI,SAI1_FS_B,TIM14_CH1,FMC_CD,EVENTOUT/ADC3_IN7", 31 PF10 (io) "PF10/FMC_INTR,DCMI_D11,LCD_DE,EVENTOUT/ADC3_IN8", 35 PC0 (io) "PC0/OTG_HS_ULPI_STP,FMC_SDNWE,EVENTOUT/ADC123_IN10", 36 PC1 (io) "PC1/ETH_MDC,EVENTOUT/ADC123_IN11", 37 PC2 (io) "PC2/SPI2_MISO,I2S2ext_SD,OTG_HS_ULPI_DIR,ETH_MII_TXD2,FMC_SDNE0,EVENTOUT/ADC123_IN12", 38 PC3 (io) "PC3/SPI2_MOSI/I2S2_SD,OTG_HS_ULPI_NXT,ETH_MII_TX_CLK,FMC_SDCKE0,EVENTOUT/ADC123_IN13", 43 PA0-WKUP(PA0) (io) "PA0-WKUP(PA0)/TIM2_CH1/TIM2_ETR,TIM5_CH1,TIM8_ETR,USART2_CTS,UART4_TX,ETH_MII_CRS,EVENTOUT/ADC123_IN0/WKUP", 44 PA1 (io) "PA1/TIM2_CH2,TIM5_CH2,USART2_RTS,UART4_RX,ETH_MII_RX_CLK/ETH_RMII_REF_CLK,EVENTOUT/ADC123_IN1", 45 PA2 (io) "PA2/TIM2_CH3,TIM5_CH3,TIM9_CH1,USART2_TX,ETH_MDIO,EVENTOUT/ADC123_IN2", 50 PA3 (io) "PA3/TIM2_CH4,TIM5_CH4,TIM9_CH2,USART2_RX,OTG_HS_ULPI_D0,ETH_MII_COL,LCD_B5,EVENTOUT/ADC123_IN3", 53 PA4 (io) "PA4/SPI1_NSS,SPI3_NSS/I2S3_WS,USART2_CK,OTG_HS_SOF,DCMI_HSYNC,LCD_VSYNC,EVENTOUT/ADC12_IN4/DAC_OUT1", 54 PA5 (io) "PA5/TIM2_CH1/TIM2_ETR,TIM8_CH1N,SPI1_SCK,OTG_HS_ULPI_CK,EVENTOUT/ADC12_IN5/DAC_OUT2", 55 PA6 (io) "PA6/TIM1_BKIN,TIM3_CH1,TIM8_BKIN,SPI1_MISO,TIM13_CH1,DCMI_PIXCLK,LCD_G2,EVENTOUT/ADC12_IN6", 56 PA7 (io) "PA7/TIM1_CH1N,TIM3_CH2,TIM8_CH1N,SPI1_MOSI,TIM14_CH1,ETH_MII_RX_DV/ETH_RMII_CRS_DV,EVENTOUT/ADC12_IN7", 57 PC4 (io) "PC4/ETH_MII_RXD0/ETH_RMII_RXD0,EVENTOUT/ADC12_IN14", 58 PC5 (io) "PC5/ETH_MII_RXD1/ETH_RMII_RXD1,EVENTOUT/ADC12_IN15", 61 PB0 (io) "PB0/TIM1_CH2N,TIM3_CH3,TIM8_CH2N,LCD_R3,OTG_HS_ULPI_D1,ETH_MII_RXD2,EVENTOUT/ADC12_IN8", 62 PB1 (io) "PB1/TIM1_CH3N,TIM3_CH4,TIM8_CH3N,LCD_R6,OTG_HS_ULPI_D2,ETH_MII_RXD3,EVENTOUT/ADC12_IN9", 63 PB2 (io) "RTC_OUT, SAI1_D1", 70 PF11 (io) "PF11/SPI5_MOSI,FMC_SDNRAS,DCMI_D12,EVENTOUT", 71 PF12 (io) "PF12/FMC_A6,EVENTOUT", 74 PF13 (io) "PF13/FMC_A7,EVENTOUT", 75 PF14 (io) "PF14/FMC_A8,EVENTOUT", 76 PF15 (io) "PF15/FMC_A9,EVENTOUT", 79 PE7 (io) "PE7/TIM1_ETR,UART7_RX,FMC_D4,EVENTOUT", 80 PE8 (io) "PE8/TIM1_CH1N,UART7_TX,FMC_D5,EVENTOUT", 81 PE9 (io) "PE9/TIM1_CH1,FMC_D6,EVENTOUT", 84 PE10 (io) "PE10/TIM1_CH2N,FMC_D7,EVENTOUT", 85 PE11 (io) "PE11/TIM1_CH2,SPI4_NSS,FMC_D8,LCD_G3,EVENTOUT", 86 PE12 (io) "PE12/TIM1_CH3N,SPI4_SCK,FMC_D9,LCD_B4,EVENTOUT", 87 PE13 (io) "PE13/TIM1_CH3,SPI4_MISO,FMC_D10,LCD_DE,EVENTOUT", 88 PE14 (io) "PE14/TIM1_CH4,SPI4_MOSI,FMC_D11,LCD_CLK,EVENTOUT", 89 PE15 (io) "PE15/TIM1_BKIN,FMC_D12,LCD_R7,EVENTOUT", 90 PB10 (io) "PB10/TIM2_CH3,I2C2_SCL,SPI2_SCK/I2S2_CK,USART3_TX,OTG_HS_ULPI_D3,ETH_MII_RX_ER,LCD_G4,EVENTOUT", 91 PB11 (io) "PB11/TIM2_CH4,I2C2_SDA,USART3_RX,OTG_HS_ULPI_D4,ETH_MII_TX_EN/ETH_RMII_TX_EN,LCD_G5,EVENTOUT", 104 PB12 (io) "PB12/TIM1_BKIN,I2C2_SMBA,SPI2_NSS/I2S2_WS,USART3_CK,CAN2_RX,OTG_HS_ULPI_D5,ETH_MII_TXD0/ETH_RMII_TXD0,OTG_HS_ID,EVENTOUT", 105 PB13 (io) "PB13/TIM1_CH1N,SPI2_SCK/I2S2_CK,USART3_CTS,CAN2_TX,OTG_HS_ULPI_D6,ETH_MII_TXD1/ETH_RMII_TXD1,EVENTOUT/OTG_HS_VBUS", 106 PB14 (io) "PB14/TIM1_CH2N,TIM8_CH2N,SPI2_MISO,I2S2ext_SD,USART3_RTS,TIM12_CH1,EVENTOUT/OTG_HS_DM", 107 PB15 (io) "PB15/RTC_REFIN,TIM1_CH3N,TIM8_CH3N,SPI2_MOSI/I2S2_SD,TIM12_CH2,EVENTOUT/OTG_HS_DP", 108 PD8 (io) "PD8/USART3_TX,FMC_D13,EVENTOUT", 109 PD9 (io) "PD9/USART3_RX,FMC_D14,EVENTOUT", 110 PD10 (io) "PD10/USART3_CK,FMC_D15,LCD_B3,EVENTOUT", 111 PD11 (io) "PD11/USART3_CTS,FMC_A16,EVENTOUT", 112 PD12 (io) "PD12/TIM4_CH1,USART3_RTS,FMC_A17,EVENTOUT", 113 PD13 (io) "PD13/TIM4_CH2,FMC_A18,EVENTOUT", 116 PD14 (io) "PD14/TIM4_CH3,FMC_D0,EVENTOUT", 117 PD15 (io) "PD15/TIM4_CH4,FMC_D1,EVENTOUT", 138 PC6 (io) "PC6/TIM3_CH1,TIM8_CH1,I2S2_MCK,USART6_TX,SDIO_D6,DCMI_D0,LCD_HSYNC,EVENTOUT", 139 PC7 (io) "PC7/TIM3_CH2,TIM8_CH2,I2S3_MCK,USART6_RX,SDIO_D7,DCMI_D1,LCD_G6,EVENTOUT", 140 PC8 (io) "PC8/TIM3_CH3,TIM8_CH3,USART6_CK,SDIO_D0,DCMI_D2,EVENTOUT", 141 PC9 (io) "PC9/MCO2,TIM3_CH4,TIM8_CH4,I2C3_SDA,I2S_CKIN,SDIO_D1,DCMI_D3,EVENTOUT", 142 PA8 (io) "PA8/MCO1,TIM1_CH1,I2C3_SCL,USART1_CK,OTG_FS_SOF,LCD_R6,EVENTOUT", 143 PA9 (io) "PA9/TIM1_CH2,I2C3_SMBA,USART1_TX,DCMI_D0,EVENTOUT/OTG_FS_VBUS", 144 PA10 (io) "PA10/TIM1_CH3,USART1_RX,OTG_FS_ID,DCMI_D1,EVENTOUT", 145 PA11 (io) "PA11/TIM1_CH4,USART1_CTS,CAN1_RX,LCD_R4,EVENTOUT/OTG_FS_DM", 146 PA12 (io) "PA12/TIM1_ETR,USART1_RTS,CAN1_TX,LCD_R5,EVENTOUT/OTG_FS_DP", 147 PA13(JTMS-SWDIO) (io) "PA13(JTMS-SWDIO)/JTMS-SWDIO,EVENTOUT", 159 PA14(JTCK-SWCLK) (io) "PA14(JTCK-SWCLK)/JTCK-SWCLK/EVENTOUT", 160 PA15(JTDI) (io) "PA15(JTDI)/JTDI,TIM2_CH1/TIM2_ETR,SPI1_NSS,SPI3_NSS/I2S3_WS,EVENTOUT", 161 PC10 (io) "PC10/SPI3_SCK/I2S3_CK,USART3_TX,UART4_TX,SDIO_D2,DCMI_D8,LCD_R2,EVENTOUT", 162 PC11 (io) "PC11/I2S3ext_SD,SPI3_MISO,USART3_RX,UART4_RX,SDIO_D3,DCMI_D4,EVENTOUT", 163 PC12 (io) "PC12/SPI3_MOSI/I2S3_SD,USART3_CK,UART5_TX,SDIO_CK,DCMI_D9,EVENTOUT", 164 PD0 (io) "PD0/CAN1_RX,FMC_D2,EVENTOUT", 165 PD1 (io) "PD1/CAN1_TX,FMC_D3,EVENTOUT", 166 PD2 (io) "PD2/TIM3_ETR,UART5_RX,SDIO_CMD,DCMI_D11,EVENTOUT", 167 PD3 (io) "PD3/SPI2_SCK/I2S2_CK,USART2_CTS,FMC_CLK,DCMI_D5,LCD_G7,EVENTOUT", 168 PD4 (io) "PD4/USART2_RTS,FMC_NOE,EVENTOUT", 169 PD5 (io) "PD5/USART2_TX,FMC_NWE,EVENTOUT", 172 PD6 (io) "PD6/SPI3_MOSI/I2S3_SD,SAI1_SD_A,USART2_RX,FMC_NWAIT,DCMI_D10,LCD_B2,EVENTOUT", 173 PD7 (io) "PD7/USART2_CK,FMC_NE1/FMC_NCE2,EVENTOUT", 192 PB3(JTDO/TRACESWO) (io) "PB3(JTDO/TRACESWO)/JTDO/TRACESWO,TIM2_CH2,SPI1_SCK,SPI3_SCK/I2S3_CK,EVENTOUT", 193 PB4(NJTRST) (io) "PB4(NJTRST)/NJTRST,TIM3_CH1,SPI1_MISO,SPI3_MISO,I2S3ext_SD,EVENTOUT", 194 PB5 (io) "PB5/TIM3_CH2,I2C1_SMBA,SPI1_MOSI,SPI3_MOSI/I2S3_SD,CAN2_RX,OTG_HS_ULPI_D7,ETH_PPS_OUT,FMC_SDCKE1,DCMI_D10,EVENTOUT", 195 PB6 (io) "PB6/TIM4_CH1,I2C1_SCL,USART1_TX,CAN2_TX,FMC_SDNE1,DCMI_D5,EVENTOUT", 196 PB7 (io) "PB7/TIM4_CH2,I2C1_SDA,USART1_RX,FMC_NL,DCMI_VSYNC,EVENTOUT", 198 PB8 (io) "PB8/TIM4_CH3,TIM10_CH1,I2C1_SCL,CAN1_RX,ETH_MII_TXD3,SDIO_D4,DCMI_D6,LCD_B6,EVENTOUT", 199 PB9 (io) "PB9/TIM4_CH4,TIM11_CH1,I2C1_SDA,SPI2_NSS/I2S2_WS,CAN1_TX,SDIO_D5,DCMI_D7,LCD_B7,EVENTOUT", 200 PE0 (io) "PE0/TIM4_ETR,UART8_RX,FMC_NBL0,DCMI_D2,EVENTOUT", 201 PE1 (io) "PE1/UART8_TX,FMC_NBL1,DCMI_D3,EVENTOUT"
part B pins: 7 PI8 (io) "PI8/EVENTOUT/TAMP_2", 11 PI9 (io) "PI9/CAN1_RX,FMC_D30,LCD_VSYNC,EVENTOUT", 12 PI10 (io) "PI10/ETH_MII_RX_ER,FMC_D31,LCD_HSYNC,EVENTOUT", 13 PI11 (io) "PI11/OTG_HS_ULPI_DIR,EVENTOUT", 19 PI12 (io) "PI12/LCD_HSYNC,EVENTOUT", 20 PI13 (io) "PI13/LCD_VSYNC,EVENTOUT", 21 PI14 (io) "PI14/LCD_CLK,EVENTOUT", 32 PH0-OSC_IN(PH0) (io) "PH0-OSC_IN(PH0)/EVENTOUT/OSC_IN", 33 PH1-OSC_OUT(PH1) (io) "PH1-OSC_OUT(PH1)/EVENTOUT/OSC_OUT", 34 NRST (io), 46 PH2 (io) "PH2/ETH_MII_CRS,FMC_SDCKE0,LCD_R0,EVENTOUT", 47 PH3 (io) "PH3/ETH_MII_COL,FMC_SDNE0,LCD_R1,EVENTOUT", 48 PH4 (io) "PH4/I2C2_SCL,OTG_HS_ULPI_NXT,EVENTOUT", 49 PH5 (io) "PH5/I2C2_SDA,SPI5_NSS,FMC_SDNWE,EVENTOUT", 64 PI15 (io) "PI15/LCD_R0,EVENTOUT", 65 PJ0 (io) "PJ0/LCD_R1,EVENTOUT", 66 PJ1 (io) "PJ1/LCD_R2,EVENTOUT", 67 PJ2 (io) "PJ2/LCD_R3,EVENTOUT", 68 PJ3 (io) "PJ3/LCD_R4,EVENTOUT", 69 PJ4 (io) "PJ4/LCD_R5,EVENTOUT", 77 PG0 (io) "PG0/FMC_A10,EVENTOUT", 78 PG1 (io) "PG1/FMC_A11,EVENTOUT", 92 VCAP_1 (power), 95 PJ5 (io) "PJ5/LCD_R6,EVENTOUT", 96 PH6 (io) "PH6/I2C2_SMBA,SPI5_SCK,TIM12_CH1,ETH_MII_RXD2,FMC_SDNE1,DCMI_D8,EVENTOUT", 97 PH7 (io) "PH7/I2C3_SCL,SPI5_MISO,ETH_MII_RXD3,FMC_SDCKE1,DCMI_D9,EVENTOUT", 98 PH8 (io) "PH8/I2C3_SDA,FMC_D16,DCMI_HSYNC,LCD_R2,EVENTOUT", 99 PH9 (io) "PH9/I2C3_SMBA,TIM12_CH2,FMC_D17,DCMI_D0,LCD_R3,EVENTOUT", 100 PH10 (io) "PH10/TIM5_CH1,FMC_D18,DCMI_D1,LCD_R4,EVENTOUT", 101 PH11 (io) "PH11/TIM5_CH2,FMC_D19,DCMI_D2,LCD_R5,EVENTOUT", 102 PH12 (io) "PH12/TIM5_CH3,FMC_D20,DCMI_D3,LCD_R6,EVENTOUT", 118 PJ6 (io) "PJ6/LCD_R7,EVENTOUT", 119 PJ7 (io) "PJ7/LCD_G0,EVENTOUT", 120 PJ8 (io) "PJ8/LCD_G1,EVENTOUT", 121 PJ9 (io) "PJ9/LCD_G2,EVENTOUT", 122 PJ10 (io) "PJ10/LCD_G3,EVENTOUT", 123 PJ11 (io) "PJ11/LCD_G4,EVENTOUT", 126 PK0 (io) "PK0/LCD_G5,EVENTOUT", 127 PK1 (io) "PK1/LCD_G6,EVENTOUT", 128 PK2 (io) "PK2/LCD_G7,EVENTOUT", 129 PG2 (io) "PG2/FMC_A12,EVENTOUT", 130 PG3 (io) "PG3/FMC_A13,EVENTOUT", 131 PG4 (io) "PG4/FMC_A14/FMC_BA0,EVENTOUT", 132 PG5 (io) "PG5/FMC_A15/FMC_BA1,EVENTOUT", 133 PG6 (io) "PG6/FMC_INT2,DCMI_D12,LCD_R7,EVENTOUT", 134 PG7 (io) "PG7/USART6_CK,FMC_INT3,DCMI_D13,LCD_CLK,EVENTOUT", 135 PG8 (io) "PG8/SPI6_NSS,USART6_RTS,ETH_PPS_OUT,FMC_SDCLK,EVENTOUT", 148 VCAP_2 (power), 151 PH13 (io) "PH13/TIM8_CH1N,CAN1_TX,FMC_D21,LCD_G2,EVENTOUT", 152 PH14 (io) "PH14/TIM8_CH2N,FMC_D22,DCMI_D4,LCD_G3,EVENTOUT", 153 PH15 (io) "PH15/TIM8_CH3N,FMC_D23,DCMI_D11,LCD_G4,EVENTOUT", 154 PI0 (io) "PI0/TIM5_CH4,SPI2_NSS/I2S2_WS,FMC_D24,DCMI_D13,LCD_G5,EVENTOUT", 155 PI1 (io) "PI1/SPI2_SCK/I2S2_CK,FMC_D25,DCMI_D8,LCD_G6,EVENTOUT", 156 PI2 (io) "PI2/TIM8_CH4,SPI2_MISO,I2S2ext_SD,FMC_D26,DCMI_D9,LCD_G7,EVENTOUT", 157 PI3 (io) "PI3/TIM8_ETR,SPI2_MOSI/I2S2_SD,FMC_D27,DCMI_D10,EVENTOUT", 174 PJ12 (io) "PJ12/LCD_B0,EVENTOUT", 175 PJ13 (io) "PJ13/LCD_B1,EVENTOUT", 176 PJ14 (io) "PJ14/LCD_B2,EVENTOUT", 177 PJ15 (io) "PJ15/LCD_B3,EVENTOUT", 178 PG9 (io) "PG9/USART6_RX,FMC_NE2/FMC_NCE3,EVENTOUT", 179 PG10 (io) "PG10/LCD_G3,FMC_NCE4_1/FMC_NE3,DCMI_D2,LCD_B2,EVENTOUT", 180 PG11 (io) "PG11/ETH_MII_TX_EN/ETH_RMII_TX_EN,FMC_NCE4_2,DCMI_D3,LCD_B3,EVENTOUT", 181 PG12 (io) "PG12/SPI6_MISO,USART6_RTS,LCD_B4,FMC_NE4,LCD_B1,EVENTOUT", 182 PG13 (io) "PG13/SPI6_SCK,USART6_CTS,ETH_MII_TXD0/ETH_RMII_TXD0,FMC_A24,EVENTOUT", 183 PG14 (io) "PG14/SPI6_MOSI,USART6_TX,ETH_MII_TXD1/ETH_RMII_TXD1,FMC_A25,EVENTOUT", 186 PK3 (io) "PK3/LCD_B4,EVENTOUT", 187 PK4 (io) "PK4/LCD_B5,EVENTOUT", 188 PK5 (io) "PK5/LCD_B6,EVENTOUT", 189 PK6 (io) "PK6/LCD_B7,EVENTOUT", 190 PK7 (io) "PK7/LCD_DE,EVENTOUT", 191 PG15 (io) "PG15/USART6_CTS,FMC_SDNCAS,DCMI_D13,EVENTOUT", 197 BOOT0 (in) "BOOT0/VPP", 203 PDR_ON (in), 205 PI4 (io) "PI4/TIM8_BKIN,FMC_NBL2,DCMI_D5,LCD_B4,EVENTOUT", 206 PI5 (io) "PI5/TIM8_CH1,FMC_NBL3,DCMI_VSYNC,LCD_B5,EVENTOUT", 207 PI6 (io) "PI6/TIM8_CH2,FMC_D28,DCMI_D6,LCD_B6,EVENTOUT", 208 PI7 (io) "PI7/TIM8_CH3,FMC_D29,DCMI_D7,LCD_B7,EVENTOUT"
part C pins: 6 VBAT (power), 14 VSS (power), 15 VDD (power), 25 VSS (power), 26 VDD (power), 39 VDD (power), 40 VSSA (power), 41 VREF+ (power), 42 VDDA (power), 51 VSS (power), 52 VDD (power), 59 VDD (power), 60 VSS (power), 72 VSS (power), 73 VDD (power), 82 VSS (power), 83 VDD (power), 93 VSS (power), 94 VDD (power), 103 VDD (power), 114 VSS (power), 115 VDD (power), 124 VDD (power), 125 VSS (power), 136 VSS (power), 137 VDD33USB (power) "VDD", 149 VSS (power), 150 VDD (power), 158 VDD (power), 170 VSS (power), 171 VDD (power), 184 VSS (power), 185 VDD (power), 202 VSS (power), 204 VDD (power)

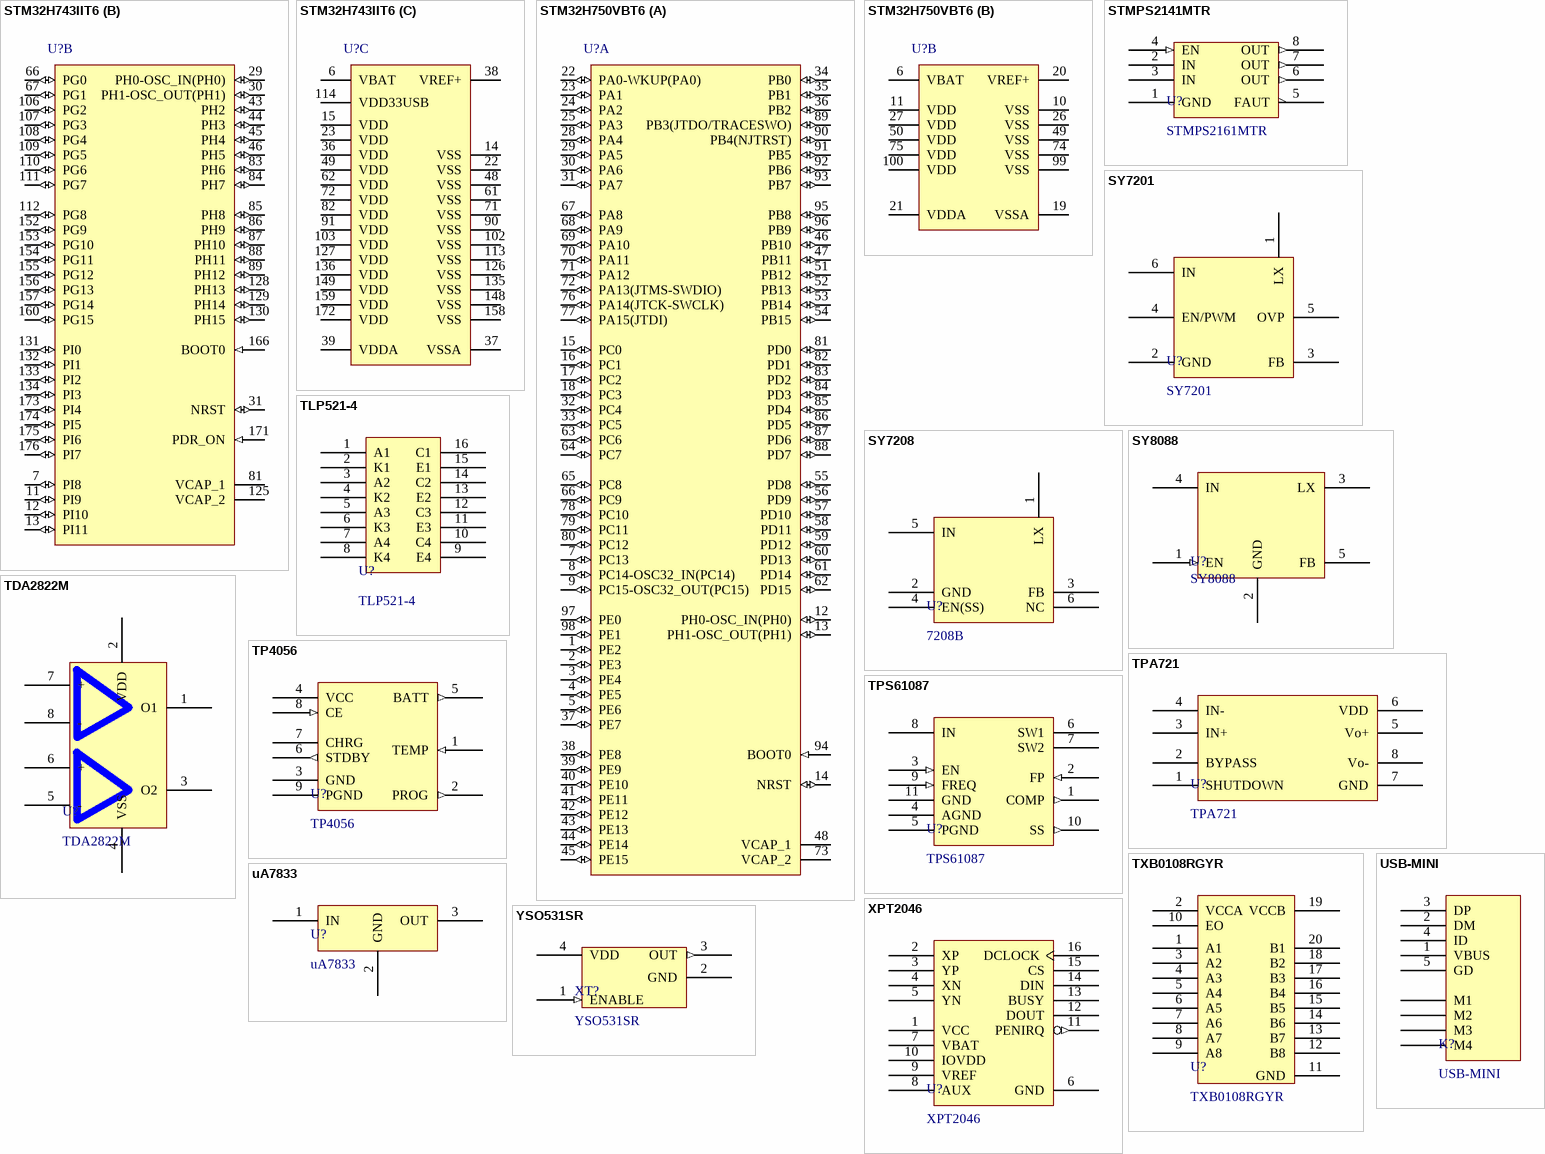
[diagram p4: symbols STM32H743IIT6 to YSO531SR]

## STM32H743IIT6
designator U?
ARM Cortex-M47 32-bit MCU+FPU, 225 DMIPS, 2048 kB Flash, 256 kB Internal RAM, 140 I/Os, 176-pin LQFP, -40 to 85 degC, Tray; Manufacturer: STMicroelectronics; PartNumber: STM32F429IIT6; D/A Converter: 2x12-bit; FLASH Size (Prog) (kB): 2048; I/Os (High Current): 140; Internal RAM Size (kB): 256; Operating Frequency(F) (Processor speed) (MHz): 180; Supply Voltage(Vcc) max (V): 3.6; Supply Voltage(Vcc) min (V): 1.8; DatasheetVersion: Rev. 2; PackageVersion: Rev. 4, 06/2013; PackageReference: LQFP176; PackageDescription: 176-Pin Low Profile Quad Flat Package, 24 x 24 mm Body, 0.5 mm Pitch; Supplier 1: Digi-Key; Supplier Part Number 1: 497-14054-ND; Supplier 2: Newark; Supplier Part Number 2: 06X3672; Supplier 3: Mouser; Supplier Part Number 3: 511-STM32F429IIT6; Core: ARM Cortex-M4; Packing: Tray; Mounting Technology: Surface Mount; ComponentLink1Description: Manufacturer URL; ComponentLink1URL: http://www.st.com/web/en/home.html; ComponentLink2Description: Datasheet; ComponentLink2URL: http://www.st.com/st-web-ui/static/active/en/resource/technical/document/data_brief/DM00053488.pdf; ComponentLink3Description: Package Specification; ComponentLink3URL: http://www.st.com/st-web-ui/static/active/en/resource/technical/document/datasheet/DM00035129.pdf
footprint STM-LQFP176_N (Thin QFP, 176-Leads, Body 24x24mm, Pitch 0.5mm, IPC Medium Density)
footprint STM-LQFP176_L (Thin QFP, 176-Leads, Body 24x24mm, Pitch 0.5mm, IPC High Density)
footprint STM-LQFP176_M (Thin QFP, 176-Leads, Body 24x24mm, Pitch 0.5mm, IPC Low Density)
part A pins: 1 PE2 (io) "PE2/TRACECLK,SPI4_SCK,SAI1_MCLK_A,ETH_MII_TXD3,FMC_A23,EVENTOUT", 2 PE3 (io) "PE3/TRACED0,SAI1_SD_B,FMC_A19,EVENTOUT", 3 PE4 (io) "PE4/TRACED1,SPI4_NSS,SAI1_FS_A,FMC_A20,DCMI_D4,LCD_B0,EVENTOUT", 4 PE5 (io) "PE5/TRACED2,TIM9_CH1,SPI4_MISO,SAI1_SCK_A,FMC_A21,DCMI_D6,LCD_G0,EVENTOUT", 5 PE6 (io) "PE6/TRACED3,TIM9_CH2,SPI4_MOSI,SAI1_SD_A,FMC_A22,DCMI_D7,LCD_G1,EVENTOUT", 8 PC13 (io) "PC13/EVENTOUT/TAMP_1", 9 PC14-OSC32_IN(PC14) (io) "PC14-OSC32_IN(PC14)/EVENTOUT/OSC32_IN", 10 PC15-OSC32_OUT(PC15) (io) "PC15-OSC32_OUT(PC15)/EVENTOUT/OSC32_OUT", 16 PF0 (io) "PF0/I2C2_SDA,FMC_A0,EVENTOUT", 17 PF1 (io) "PF1/I2C2_SCL,FMC_A1,EVENTOUT", 18 PF2 (io) "PF2/I2C2_SMBA,FMC_A2,EVENTOUT", 19 PF3 (io) "PF3/FMC_A3,EVENTOUT/ADC3_IN9", 20 PF4 (io) "PF4/FMC_A4,EVENTOUT/ADC3_IN14", 21 PF5 (io) "PF5/FMC_A5,EVENTOUT/ADC3_IN15", 24 PF6 (io) "PF6/TIM10_CH1,SPI5_NSS,SAI1_SD_B,UART7_RX,FMC_NIORD,EVENTOUT/ADC3_IN4", 25 PF7 (io) "PF7/TIM11_CH1,SPI5_SCK,SAI1_MCLK_B,UART7_TX,FMC_NREG,EVENTOUT/ADC3_IN5", 26 PF8 (io) "PF8/SPI5_MISO,SAI1_SCK_B,TIM13_CH1,FMC_NIOWR,EVENTOUT/ADC3_IN6", 27 PF9 (io) "PF9/SPI5_MOSI,SAI1_FS_B,TIM14_CH1,FMC_CD,EVENTOUT/ADC3_IN7", 28 PF10 (io) "PF10/FMC_INTR,DCMI_D11,LCD_DE,EVENTOUT/ADC3_IN8", 32 PC0 (io) "PC0/OTG_HS_ULPI_STP,FMC_SDNWE,EVENTOUT/ADC123_IN10", 33 PC1 (io) "PC1/ETH_MDC,EVENTOUT/ADC123_IN11", 34 PC2 (io) "PC2/SPI2_MISO,I2S2ext_SD,OTG_HS_ULPI_DIR,ETH_MII_TXD2,FMC_SDNE0,EVENTOUT/ADC123_IN12", 35 PC3 (io) "PC3/SPI2_MOSI/I2S2_SD,OTG_HS_ULPI_NXT,ETH_MII_TX_CLK,FMC_SDCKE0,EVENTOUT/ADC123_IN13", 40 PA0-WKUP(PA0) (io) "PA0-WKUP(PA0)/TIM2_CH1/TIM2_ETR,TIM5_CH1,TIM8_ETR,USART2_CTS,UART4_TX,ETH_MII_CRS,EVENTOUT/ADC123_IN0/WKUP", 41 PA1 (io) "PA1/TIM2_CH2,TIM5_CH2,USART2_RTS,UART4_RX,ETH_MII_RX_CLK/ETH_RMII_REF_CLK,EVENTOUT/ADC123_IN1", 42 PA2 (io) "PA2/TIM2_CH3,TIM5_CH3,TIM9_CH1,USART2_TX,ETH_MDIO,EVENTOUT/ADC123_IN2", 47 PA3 (io) "PA3/TIM2_CH4,TIM5_CH4,TIM9_CH2,USART2_RX,OTG_HS_ULPI_D0,ETH_MII_COL,LCD_B5,EVENTOUT/ADC123_IN3", 50 PA4 (io) "PA4/SPI1_NSS,SPI3_NSS/I2S3_WS,USART2_CK,OTG_HS_SOF,DCMI_HSYNC,LCD_VSYNC,EVENTOUT/ADC12_IN4/DAC_OUT1", 51 PA5 (io) "PA5/TIM2_CH1/TIM2_ETR,TIM8_CH1N,SPI1_SCK,OTG_HS_ULPI_CK,EVENTOUT/ADC12_IN5/DAC_OUT2", 52 PA6 (io) "PA6/TIM1_BKIN,TIM3_CH1,TIM8_BKIN,SPI1_MISO,TIM13_CH1,DCMI_PIXCLK,LCD_G2,EVENTOUT/ADC12_IN6", 53 PA7 (io) "PA7/TIM1_CH1N,TIM3_CH2,TIM8_CH1N,SPI1_MOSI,TIM14_CH1,ETH_MII_RX_DV/ETH_RMII_CRS_DV,EVENTOUT/ADC12_IN7", 54 PC4 (io) "PC4/ETH_MII_RXD0/ETH_RMII_RXD0,EVENTOUT/ADC12_IN14", 55 PC5 (io) "PC5/ETH_MII_RXD1/ETH_RMII_RXD1,EVENTOUT/ADC12_IN15", 56 PB0 (io) "PB0/TIM1_CH2N,TIM3_CH3,TIM8_CH2N,LCD_R3,OTG_HS_ULPI_D1,ETH_MII_RXD2,EVENTOUT/ADC12_IN8", 57 PB1 (io) "PB1/TIM1_CH3N,TIM3_CH4,TIM8_CH3N,LCD_R6,OTG_HS_ULPI_D2,ETH_MII_RXD3,EVENTOUT/ADC12_IN9", 58 PB2 (io) "PB2-BOOT1(PB2)/EVENTOUT", 59 PF11 (io) "PF11/SPI5_MOSI,FMC_SDNRAS,DCMI_D12,EVENTOUT", 60 PF12 (io) "PF12/FMC_A6,EVENTOUT", 63 PF13 (io) "PF13/FMC_A7,EVENTOUT", 64 PF14 (io) "PF14/FMC_A8,EVENTOUT", 65 PF15 (io) "PF15/FMC_A9,EVENTOUT", 68 PE7 (io) "PE7/TIM1_ETR,UART7_RX,FMC_D4,EVENTOUT", 69 PE8 (io) "PE8/TIM1_CH1N,UART7_TX,FMC_D5,EVENTOUT", 70 PE9 (io) "PE9/TIM1_CH1,FMC_D6,EVENTOUT", 73 PE10 (io) "PE10/TIM1_CH2N,FMC_D7,EVENTOUT", 74 PE11 (io) "PE11/TIM1_CH2,SPI4_NSS,FMC_D8,LCD_G3,EVENTOUT", 75 PE12 (io) "PE12/TIM1_CH3N,SPI4_SCK,FMC_D9,LCD_B4,EVENTOUT", 76 PE13 (io) "PE13/TIM1_CH3,SPI4_MISO,FMC_D10,LCD_DE,EVENTOUT", 77 PE14 (io) "PE14/TIM1_CH4,SPI4_MOSI,FMC_D11,LCD_CLK,EVENTOUT", 78 PE15 (io) "PE15/TIM1_BKIN,FMC_D12,LCD_R7,EVENTOUT", 79 PB10 (io) "PB10/TIM2_CH3,I2C2_SCL,SPI2_SCK/I2S2_CK,USART3_TX,OTG_HS_ULPI_D3,ETH_MII_RX_ER,LCD_G4,EVENTOUT", 80 PB11 (io) "PB11/TIM2_CH4,I2C2_SDA,USART3_RX,OTG_HS_ULPI_D4,ETH_MII_TX_EN/ETH_RMII_TX_EN,LCD_G5,EVENTOUT", 92 PB12 (io) "PB12/TIM1_BKIN,I2C2_SMBA,SPI2_NSS/I2S2_WS,USART3_CK,CAN2_RX,OTG_HS_ULPI_D5,ETH_MII_TXD0/ETH_RMII_TXD0,OTG_HS_ID,EVENTOUT", 93 PB13 (io) "PB13/TIM1_CH1N,SPI2_SCK/I2S2_CK,USART3_CTS,CAN2_TX,OTG_HS_ULPI_D6,ETH_MII_TXD1/ETH_RMII_TXD1,EVENTOUT/OTG_HS_VBUS", 94 PB14 (io) "PB14/TIM1_CH2N,TIM8_CH2N,SPI2_MISO,I2S2ext_SD,USART3_RTS,TIM12_CH1,EVENTOUT/OTG_HS_DM", 95 PB15 (io) "PB15/RTC_REFIN,TIM1_CH3N,TIM8_CH3N,SPI2_MOSI/I2S2_SD,TIM12_CH2,EVENTOUT/OTG_HS_DP", 96 PD8 (io) "PD8/USART3_TX,FMC_D13,EVENTOUT", 97 PD9 (io) "PD9/USART3_RX,FMC_D14,EVENTOUT", 98 PD10 (io) "PD10/USART3_CK,FMC_D15,LCD_B3,EVENTOUT", 99 PD11 (io) "PD11/USART3_CTS,FMC_A16,EVENTOUT", 100 PD12 (io) "PD12/TIM4_CH1,USART3_RTS,FMC_A17,EVENTOUT", 101 PD13 (io) "PD13/TIM4_CH2,FMC_A18,EVENTOUT", 104 PD14 (io) "PD14/TIM4_CH3,FMC_D0,EVENTOUT", 105 PD15 (io) "PD15/TIM4_CH4,FMC_D1,EVENTOUT", 115 PC6 (io) "PC6/TIM3_CH1,TIM8_CH1,I2S2_MCK,USART6_TX,SDIO_D6,DCMI_D0,LCD_HSYNC,EVENTOUT", 116 PC7 (io) "PC7/TIM3_CH2,TIM8_CH2,I2S3_MCK,USART6_RX,SDIO_D7,DCMI_D1,LCD_G6,EVENTOUT", 117 PC8 (io) "PC8/TIM3_CH3,TIM8_CH3,USART6_CK,SDIO_D0,DCMI_D2,EVENTOUT", 118 PC9 (io) "PC9/MCO2,TIM3_CH4,TIM8_CH4,I2C3_SDA,I2S_CKIN,SDIO_D1,DCMI_D3,EVENTOUT", 119 PA8 (io) "PA8/MCO1,TIM1_CH1,I2C3_SCL,USART1_CK,OTG_FS_SOF,LCD_R6,EVENTOUT", 120 PA9 (io) "PA9/TIM1_CH2,I2C3_SMBA,USART1_TX,DCMI_D0,EVENTOUT/OTG_FS_VBUS", 121 PA10 (io) "PA10/TIM1_CH3,USART1_RX,OTG_FS_ID,DCMI_D1,EVENTOUT", 122 PA11 (io) "PA11/TIM1_CH4,USART1_CTS,CAN1_RX,LCD_R4,EVENTOUT/OTG_FS_DM", 123 PA12 (io) "PA12/TIM1_ETR,USART1_RTS,CAN1_TX,LCD_R5,EVENTOUT/OTG_FS_DP", 124 PA13(JTMS-SWDIO) (io) "PA13(JTMS-SWDIO)/JTMS-SWDIO,EVENTOUT", 137 PA14(JTCK-SWCLK) (io) "PA14(JTCK-SWCLK)/JTCK-SWCLK/EVENTOUT", 138 PA15(JTDI) (io) "PA15(JTDI)/JTDI,TIM2_CH1/TIM2_ETR,SPI1_NSS,SPI3_NSS/I2S3_WS,EVENTOUT", 139 PC10 (io) "PC10/SPI3_SCK/I2S3_CK,USART3_TX,UART4_TX,SDIO_D2,DCMI_D8,LCD_R2,EVENTOUT", 140 PC11 (io) "PC11/I2S3ext_SD,SPI3_MISO,USART3_RX,UART4_RX,SDIO_D3,DCMI_D4,EVENTOUT", 141 PC12 (io) "PC12/SPI3_MOSI/I2S3_SD,USART3_CK,UART5_TX,SDIO_CK,DCMI_D9,EVENTOUT", 142 PD0 (io) "PD0/CAN1_RX,FMC_D2,EVENTOUT", 143 PD1 (io) "PD1/CAN1_TX,FMC_D3,EVENTOUT", 144 PD2 (io) "PD2/TIM3_ETR,UART5_RX,SDIO_CMD,DCMI_D11,EVENTOUT", 145 PD3 (io) "PD3/SPI2_SCK/I2S2_CK,USART2_CTS,FMC_CLK,DCMI_D5,LCD_G7,EVENTOUT", 146 PD4 (io) "PD4/USART2_RTS,FMC_NOE,EVENTOUT", 147 PD5 (io) "PD5/USART2_TX,FMC_NWE,EVENTOUT", 150 PD6 (io) "PD6/SPI3_MOSI/I2S3_SD,SAI1_SD_A,USART2_RX,FMC_NWAIT,DCMI_D10,LCD_B2,EVENTOUT", 151 PD7 (io) "PD7/USART2_CK,FMC_NE1/FMC_NCE2,EVENTOUT", 161 PB3(JTDO/TRACESWO) (io) "PB3(JTDO/TRACESWO)/JTDO/TRACESWO,TIM2_CH2,SPI1_SCK,SPI3_SCK/I2S3_CK,EVENTOUT", 162 PB4(NJTRST) (io) "PB4(NJTRST)/NJTRST,TIM3_CH1,SPI1_MISO,SPI3_MISO,I2S3ext_SD,EVENTOUT", 163 PB5 (io) "PB5/TIM3_CH2,I2C1_SMBA,SPI1_MOSI,SPI3_MOSI/I2S3_SD,CAN2_RX,OTG_HS_ULPI_D7,ETH_PPS_OUT,FMC_SDCKE1,DCMI_D10,EVENTOUT", 164 PB6 (io) "PB6/TIM4_CH1,I2C1_SCL,USART1_TX,CAN2_TX,FMC_SDNE1,DCMI_D5,EVENTOUT", 165 PB7 (io) "PB7/TIM4_CH2,I2C1_SDA,USART1_RX,FMC_NL,DCMI_VSYNC,EVENTOUT", 167 PB8 (io) "PB8/TIM4_CH3,TIM10_CH1,I2C1_SCL,CAN1_RX,ETH_MII_TXD3,SDIO_D4,DCMI_D6,LCD_B6,EVENTOUT", 168 PB9 (io) "PB9/TIM4_CH4,TIM11_CH1,I2C1_SDA,SPI2_NSS/I2S2_WS,CAN1_TX,SDIO_D5,DCMI_D7,LCD_B7,EVENTOUT", 169 PE0 (io) "PE0/TIM4_ETR,UART8_RX,FMC_NBL0,DCMI_D2,EVENTOUT", 170 PE1 (io) "PE1/UART8_TX,FMC_NBL1,DCMI_D3,EVENTOUT"
part B pins: 7 PI8 (io) "PI8/EVENTOUT/TAMP_2", 11 PI9 (io) "PI9/CAN1_RX,FMC_D30,LCD_VSYNC,EVENTOUT", 12 PI10 (io) "PI10/ETH_MII_RX_ER,FMC_D31,LCD_HSYNC,EVENTOUT", 13 PI11 (io) "PI11/OTG_HS_ULPI_DIR,EVENTOUT", 29 PH0-OSC_IN(PH0) (io) "PH0-OSC_IN(PH0)/EVENTOUT/OSC_IN", 30 PH1-OSC_OUT(PH1) (io) "PH1-OSC_OUT(PH1)/EVENTOUT/OSC_OUT", 31 NRST (io), 43 PH2 (io) "PH2/ETH_MII_CRS,FMC_SDCKE0,LCD_R0,EVENTOUT", 44 PH3 (io) "PH3/ETH_MII_COL,FMC_SDNE0,LCD_R1,EVENTOUT", 45 PH4 (io) "PH4/I2C2_SCL,OTG_HS_ULPI_NXT,EVENTOUT", 46 PH5 (io) "PH5/I2C2_SDA,SPI5_NSS,FMC_SDNWE,EVENTOUT", 66 PG0 (io) "PG0/FMC_A10,EVENTOUT", 67 PG1 (io) "PG1/FMC_A11,EVENTOUT", 81 VCAP_1 (power), 83 PH6 (io) "PH6/I2C2_SMBA,SPI5_SCK,TIM12_CH1,ETH_MII_RXD2,FMC_SDNE1,DCMI_D8,EVENTOUT", 84 PH7 (io) "PH7/I2C3_SCL,SPI5_MISO,ETH_MII_RXD3,FMC_SDCKE1,DCMI_D9,EVENTOUT", 85 PH8 (io) "PH8/I2C3_SDA,FMC_D16,DCMI_HSYNC,LCD_R2,EVENTOUT", 86 PH9 (io) "PH9/I2C3_SMBA,TIM12_CH2,FMC_D17,DCMI_D0,LCD_R3,EVENTOUT", 87 PH10 (io) "PH10/TIM5_CH1,FMC_D18,DCMI_D1,LCD_R4,EVENTOUT", 88 PH11 (io) "PH11/TIM5_CH2,FMC_D19,DCMI_D2,LCD_R5,EVENTOUT", 89 PH12 (io) "PH12/TIM5_CH3,FMC_D20,DCMI_D3,LCD_R6,EVENTOUT", 106 PG2 (io) "PG2/FMC_A12,EVENTOUT", 107 PG3 (io) "PG3/FMC_A13,EVENTOUT", 108 PG4 (io) "PG4/FMC_A14/FMC_BA0,EVENTOUT", 109 PG5 (io) "PG5/FMC_A15/FMC_BA1,EVENTOUT", 110 PG6 (io) "PG6/FMC_INT2,DCMI_D12,LCD_R7,EVENTOUT", 111 PG7 (io) "PG7/USART6_CK,FMC_INT3,DCMI_D13,LCD_CLK,EVENTOUT", 112 PG8 (io) "PG8/SPI6_NSS,USART6_RTS,ETH_PPS_OUT,FMC_SDCLK,EVENTOUT", 125 VCAP_2 (power), 128 PH13 (io) "PH13/TIM8_CH1N,CAN1_TX,FMC_D21,LCD_G2,EVENTOUT", 129 PH14 (io) "PH14/TIM8_CH2N,FMC_D22,DCMI_D4,LCD_G3,EVENTOUT", 130 PH15 (io) "PH15/TIM8_CH3N,FMC_D23,DCMI_D11,LCD_G4,EVENTOUT", 131 PI0 (io) "PI0/TIM5_CH4,SPI2_NSS/I2S2_WS,FMC_D24,DCMI_D13,LCD_G5,EVENTOUT", 132 PI1 (io) "PI1/SPI2_SCK/I2S2_CK,FMC_D25,DCMI_D8,LCD_G6,EVENTOUT", 133 PI2 (io) "PI2/TIM8_CH4,SPI2_MISO,I2S2ext_SD,FMC_D26,DCMI_D9,LCD_G7,EVENTOUT", 134 PI3 (io) "PI3/TIM8_ETR,SPI2_MOSI/I2S2_SD,FMC_D27,DCMI_D10,EVENTOUT", 152 PG9 (io) "PG9/USART6_RX,FMC_NE2/FMC_NCE3,EVENTOUT", 153 PG10 (io) "PG10/LCD_G3,FMC_NCE4_1/FMC_NE3,DCMI_D2,LCD_B2,EVENTOUT", 154 PG11 (io) "PG11/ETH_MII_TX_EN/ETH_RMII_TX_EN,FMC_NCE4_2,DCMI_D3,LCD_B3,EVENTOUT", 155 PG12 (io) "PG12/SPI6_MISO,USART6_RTS,LCD_B4,FMC_NE4,LCD_B1,EVENTOUT", 156 PG13 (io) "PG13/SPI6_SCK,USART6_CTS,ETH_MII_TXD0/ETH_RMII_TXD0,FMC_A24,EVENTOUT", 157 PG14 (io) "PG14/SPI6_MOSI,USART6_TX,ETH_MII_TXD1/ETH_RMII_TXD1,FMC_A25,EVENTOUT", 160 PG15 (io) "PG15/USART6_CTS,FMC_SDNCAS,DCMI_D13,EVENTOUT", 166 BOOT0 (in) "BOOT0/VPP", 171 PDR_ON (in), 173 PI4 (io) "PI4/TIM8_BKIN,FMC_NBL2,DCMI_D5,LCD_B4,EVENTOUT", 174 PI5 (io) "PI5/TIM8_CH1,FMC_NBL3,DCMI_VSYNC,LCD_B5,EVENTOUT", 175 PI6 (io) "PI6/TIM8_CH2,FMC_D28,DCMI_D6,LCD_B6,EVENTOUT", 176 PI7 (io) "PI7/TIM8_CH3,FMC_D29,DCMI_D7,LCD_B7,EVENTOUT"
part C pins: 6 VBAT (power), 14 VSS (power), 15 VDD (power), 22 VSS (power), 23 VDD (power), 36 VDD (power), 37 VSSA (power), 38 VREF+ (power), 39 VDDA (power), 48 VSS (power) "POWER", 49 VDD (power), 61 VSS (power), 62 VDD (power), 71 VSS (power), 72 VDD (power), 82 VDD (power), 90 VSS (power), 91 VDD (power), 102 VSS (power), 103 VDD (power), 113 VSS (power), 114 VDD33USB (power) "VDD", 126 VSS (power), 127 VDD (power), 135 VSS (power), 136 VDD (power), 148 VSS (power), 149 VDD (power), 158 VSS (power), 159 VDD (power), 172 VDD (power)